# Altium integrated library Lattice CPLD ispMACH.IntLib: 663 symbols (part 25 of 48)
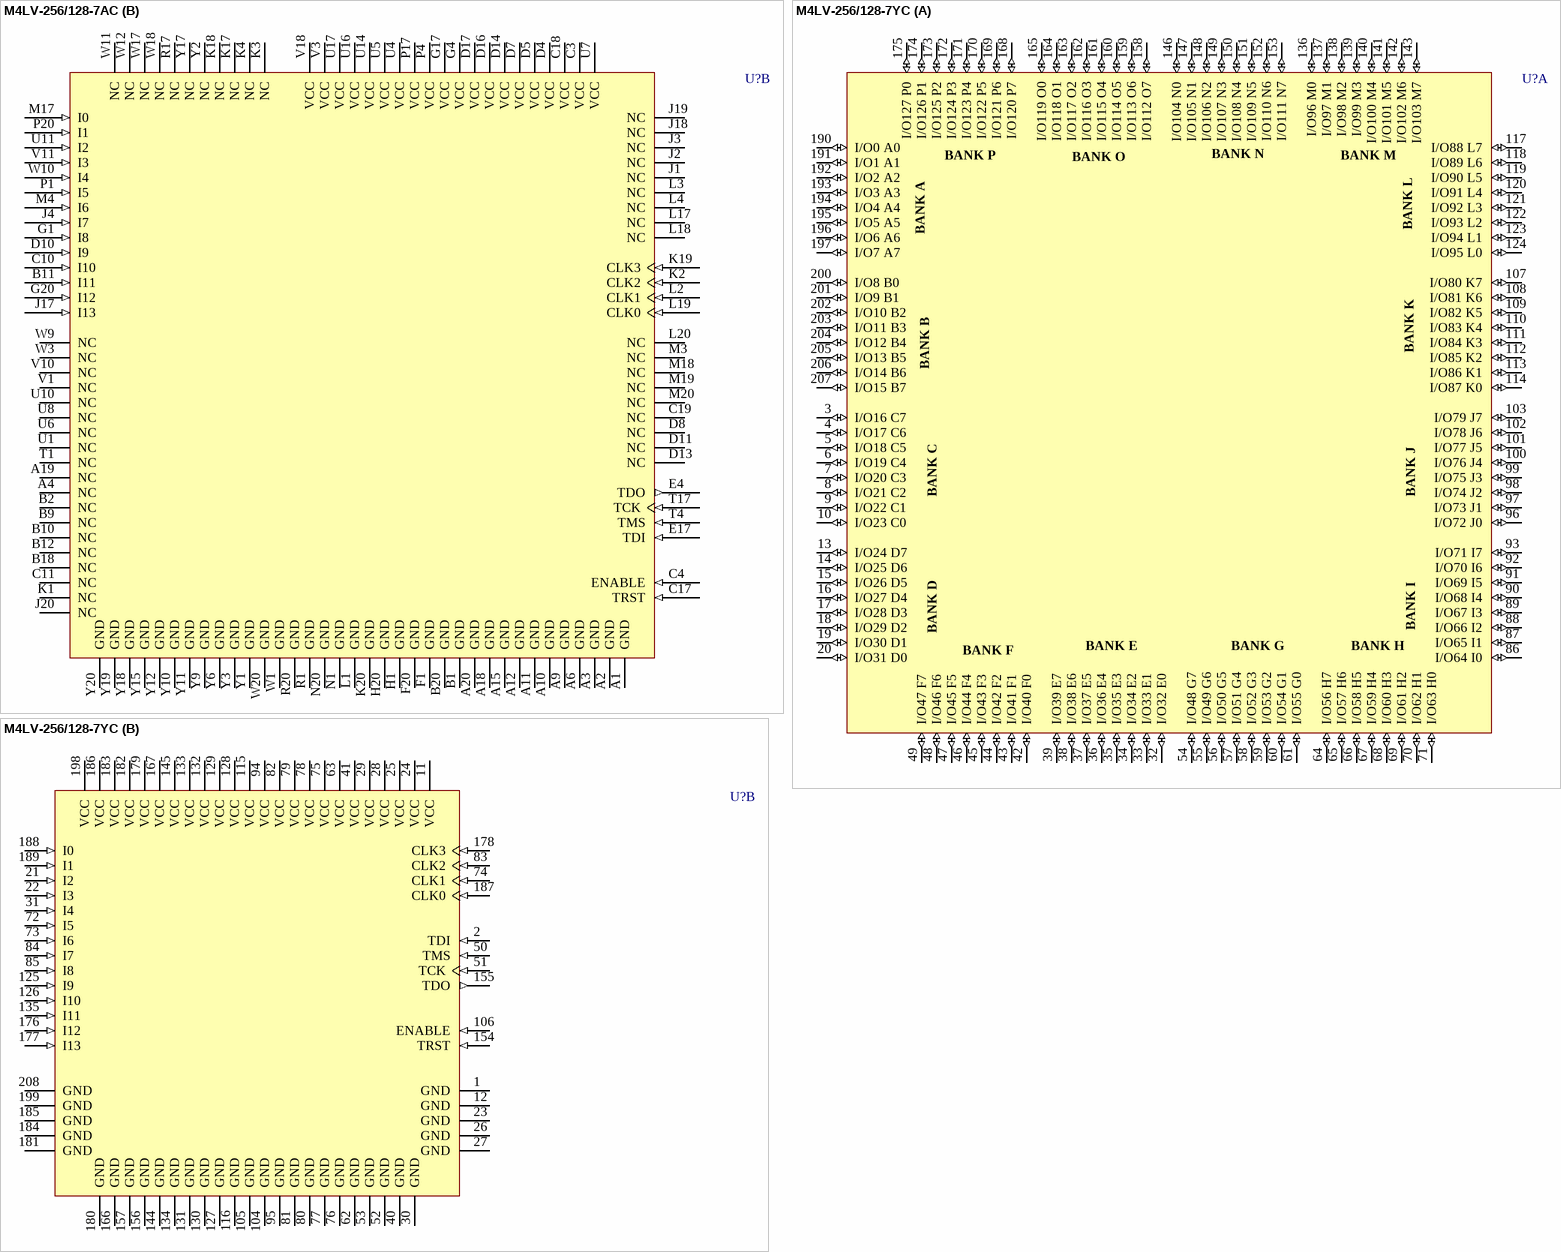
[diagram p330: symbols M4LV-256/128-7AC to M4LV-256/128-7YC]

## M4LV-256/128-7AC
designator U?
High-Performance EE CMOS In-System Programmable Logic; Published: 23-Sep-2002; LatestRevisionDate: 13-Apr-2006; LatestRevisionNote: IPC-7351 Footprint Added.; DatasheetVersion: Mar-2000; PackageVersion: pkg_32, Aug-2005; PackageReference: SBGA256; Publisher: Altium Limited; PackageDescription: 256-Ball Super Ball Grid Array (SBGA256); ComponentLink1Description: Manufacturer Link; ComponentLink1URL: http://www.latticesemi.com/products/mature/index.cfm; ComponentLink2Description: Datasheet; ComponentLink2URL: http://www.latticesemi.com/lit/docs/datasheets/cpld/mach4.pdf
footprint SBGA256 (BGA, 256-Leads, Body 27x27mm, Pitch 1.27mm)
3D model M4LV-SBGA256 (256-Ball Super Ball Grid Array (SBGA256))
part A pins: A5 I/O87 K0 (io), A7 I/O91 L4 (io), A8 I/O95 L0 (io), A13 I/O96 M0 (io), A14 I/O100 M4 (io), A16 I/O105 N1 (io), A17 I/O108 N4 (io), B3 I/O82 K5 (io), B4 I/O83 K4 (io), B5 I/O85 K2 (io), B6 I/O88 L7 (io), B7 I/O89 L6 (io), B8 I/O93 L2 (io), B13 I/O98 M2 (io), B14 I/O102 M6 (io), B15 I/O103 M7 (io), B16 I/O106 N2 (io), B17 I/O109 N5 (io), B19 I/O113 O6 (io), C1 I/O74 J2 (io), C2 I/O78 J6 (io), C5 I/O80 K7 (io), C6 I/O84 K3 (io), C7 I/O86 K1 (io), C8 I/O90 L5 (io), C9 I/O94 L1 (io), C12 I/O97 M1 (io), C13 I/O101 M5 (io), C14 I/O104 N0 (io), C15 I/O107 N3 (io), C16 I/O111 N7 (io), C20 I/O116 O3 (io), D1 I/O71 I7 (io), D2 I/O75 J3 (io), D3 I/O79 J7 (io), D6 I/O81 K6 (io), D9 I/O92 L3 (io), D12 I/O99 M3 (io), D15 I/O110 N6 (io), D18 I/O112 O7 (io), D19 I/O117 O2 (io), D20 I/O120 P7 (io), E1 I/O68 I4 (io), E2 I/O72 J0 (io), E3 I/O77 J5 (io), E18 I/O114 O5 (io), E19 I/O119 O0 (io), E20 I/O123 P4 (io), F2 I/O69 I5 (io), F3 I/O73 J1 (io), F4 I/O76 J4 (io), F17 I/O115 O4 (io), F18 I/O118 O1 (io), F19 I/O122 P5 (io), G2 I/O65 I1 (io), G3 I/O70 I6 (io), G18 I/O121 P6 (io), G19 I/O125 P2 (io), H2 I/O64 I0 (io), H3 I/O66 I2 (io), H4 I/O67 I3 (io), H17 I/O124 P3 (io), H18 I/O126 P1 (io), H19 I/O127 P0 (io), M1 I/O62 H1 (io), M2 I/O63 H0 (io), N2 I/O59 H4 (io), N3 I/O61 H2 (io), N4 I/O60 H3 (io), N17 I/O3 A3 (io), N18 I/O2 A2 (io), N19 I/O0 A0 (io), P2 I/O58 H5 (io), P3 I/O57 H6 (io), P18 I/O6 A6 (io), P19 I/O1 A1 (io), R2 I/O56 H7 (io), R3 I/O54 G1 (io), R4 I/O51 G4 (io), R18 I/O9 B1 (io), R19 I/O5 A5 (io), T2 I/O55 G0 (io), T3 I/O50 G5 (io), T18 I/O12 B4 (io), T19 I/O8 B0 (io), T20 I/O4 A4 (io), U2 I/O53 G2 (io), U3 I/O48 G7 (io), U9 I/O35 E3 (io), U12 I/O29 D2 (io), U13 I/O24 D7 (io), U15 I/O18 C5 (io), U18 I/O15 B7 (io), U19 I/O11 B3 (io), U20 I/O7 A7 (io), V2 I/O52 G3 (io), V4 I/O47 F7 (io), V5 I/O46 F6 (io), V6 I/O43 F3 (io), V7 I/O41 F1 (io), V8 I/O37 E5 (io), V9 I/O33 E1 (io), V12 I/O31 D0 (io), V13 I/O27 D4 (io), V14 I/O23 C0 (io), V15 I/O21 C2 (io), V16 I/O17 C6 (io), V17 I/O16 C7 (io), V19 I/O13 B5 (io), V20 I/O10 B2 (io), W2 I/O49 G6 (io), W4 I/O45 F5 (io), W5 I/O42 F2 (io), W6 I/O39 E7 (io), W7 I/O38 E6 (io), W8 I/O34 E2 (io), W13 I/O28 D3 (io), W14 I/O25 D6 (io), W15 I/O22 C1 (io), W16 I/O19 C4 (io), W19 I/O14 B6 (io), Y4 I/O44 F4 (io), Y5 I/O40 F0 (io), Y7 I/O36 E4 (io), Y8 I/O32 E0 (io), Y13 I/O30 D1 (io), Y14 I/O26 D5 (io), Y16 I/O20 C3 (io)
part B pins: A1 GND (power), A2 GND (power), A3 GND (power), A4 NC, A6 GND (power), A9 GND (power), A10 GND (power), A11 GND (power), A12 GND (power), A15 GND (power), A18 GND (power), A19 NC, A20 GND (power), B1 GND (power), B2 NC, B9 NC, B10 NC, B11 I11 (in), B12 NC, B18 NC, B20 GND (power), C3 VCC (power), C4 ENABLE (in), C10 I10 (in), C11 NC, C17 TRST (in), C18 VCC (power), C19 NC, D4 VCC (power), D5 VCC (power), D7 VCC (power), D8 NC, D10 I9 (in), D11 NC, D13 NC, D14 VCC (power), D16 VCC (power), D17 VCC (power), E4 TDO (out), E17 TDI (in), F1 GND (power), F20 GND (power), G1 I8 (in), G4 VCC (power), G17 VCC (power), G20 I12 (in), H1 GND (power), H20 GND (power), J1 NC, J2 NC, J3 NC, J4 I7 (in), J17 I13 (in), J18 NC, J19 NC, J20 NC, K1 NC, K2 CLK2 (in), K3 NC, K4 NC, K17 NC, K18 NC, K19 CLK3 (in), K20 GND (power), L1 GND (power), L2 CLK1 (in), L3 NC, L4 NC, L17 NC, L18 NC, L19 CLK0 (in), L20 NC, M3 NC, M4 I6 (in), M17 I0 (in), M18 NC, M19 NC, M20 NC, N1 GND (power), N20 GND (power), P1 I5 (in), P4 VCC (power), P17 VCC (power), P20 I1 (in), R1 GND (power), R17 NC, R20 GND (power), T1 NC, T4 TMS (in), T17 TCK (in), U1 NC, U4 VCC (power), U5 VCC (power), U6 NC, U7 VCC (power), U8 NC, U10 NC, U11 I2 (in), U14 VCC (power), U16 VCC (power), U17 VCC (power), V1 NC, V3 VCC (power), V10 NC, V11 I3 (in), V18 VCC (power), W1 GND (power), W3 NC, W9 NC, W10 I4 (in), W11 NC, W12 NC, W17 NC, W18 NC, W20 GND (power), Y1 GND (power), Y2 NC, Y3 GND (power), Y6 GND (power), Y9 GND (power), Y10 GND (power), Y11 GND (power), Y12 GND (power), Y15 GND (power), Y17 NC, Y18 GND (power), Y19 GND (power), Y20 GND (power)
part A text: Block P; Block O; Block N; Block M; Block A; Block L; Block B; Block K; Block C; Block J; Block D; Block I; Block E; Block F; Block G; Block H

## M4LV-256/128-7YC
designator U?
High-Performance EE CMOS In-System Programmable Logic; Published: 23-Sep-2002; LatestRevisionDate: 13-Apr-2006; LatestRevisionNote: IPC-7351 Footprint Added.; DatasheetVersion: Mar-2000; PackageVersion: pkg_32, Aug-2005; PackageReference: PQFP208; Publisher: Altium Limited; PackageDescription: 208-Pin Plastic Quad Flat Pack (PQFP208); Code_JEDEC: MO-143-FAI; ComponentLink1Description: Manufacturer Link; ComponentLink1URL: http://www.latticesemi.com/products/mature/index.cfm; ComponentLink2Description: Datasheet; ComponentLink2URL: http://www.latticesemi.com/lit/docs/datasheets/cpld/mach4.pdf
footprint PQFP208_N (Shrink QFP, 208-Leads, Body 28x28mm, Pitch 0.5mm, IPC Medium Density)
footprint PQFP208_L (Shrink QFP, 208-Leads, Body 28x28mm, Pitch 0.5mm, IPC High Density)
footprint PQFP208_M (Shrink QFP, 208-Leads, Body 28x28mm, Pitch 0.5mm, IPC Low Density)
3D model M4LV-PQFP208 (208-Pin Plastic Quad Flat Pack (PQFP208))
part A pins: 3 I/O16 C7 (io), 4 I/O17 C6 (io), 5 I/O18 C5 (io), 6 I/O19 C4 (io), 7 I/O20 C3 (io), 8 I/O21 C2 (io), 9 I/O22 C1 (io), 10 I/O23 C0 (io), 13 I/O24 D7 (io), 14 I/O25 D6 (io), 15 I/O26 D5 (io), 16 I/O27 D4 (io), 17 I/O28 D3 (io), 18 I/O29 D2 (io), 19 I/O30 D1 (io), 20 I/O31 D0 (io), 32 I/O32 E0 (io), 33 I/O33 E1 (io), 34 I/O34 E2 (io), 35 I/O35 E3 (io), 36 I/O36 E4 (io), 37 I/O37 E5 (io), 38 I/O38 E6 (io), 39 I/O39 E7 (io), 42 I/O40 F0 (io), 43 I/O41 F1 (io), 44 I/O42 F2 (io), 45 I/O43 F3 (io), 46 I/O44 F4 (io), 47 I/O45 F5 (io), 48 I/O46 F6 (io), 49 I/O47 F7 (io), 54 I/O48 G7 (io), 55 I/O49 G6 (io), 56 I/O50 G5 (io), 57 I/O51 G4 (io), 58 I/O52 G3 (io), 59 I/O53 G2 (io), 60 I/O54 G1 (io), 61 I/O55 G0 (io), 64 I/O56 H7 (io), 65 I/O57 H6 (io), 66 I/O58 H5 (io), 67 I/O59 H4 (io), 68 I/O60 H3 (io), 69 I/O61 H2 (io), 70 I/O62 H1 (io), 71 I/O63 H0 (io), 86 I/O64 I0 (io), 87 I/O65 I1 (io), 88 I/O66 I2 (io), 89 I/O67 I3 (io), 90 I/O68 I4 (io), 91 I/O69 I5 (io), 92 I/O70 I6 (io), 93 I/O71 I7 (io), 96 I/O72 J0 (io), 97 I/O73 J1 (io), 98 I/O74 J2 (io), 99 I/O75 J3 (io), 100 I/O76 J4 (io), 101 I/O77 J5 (io), 102 I/O78 J6 (io), 103 I/O79 J7 (io), 107 I/O80 K7 (io), 108 I/O81 K6 (io), 109 I/O82 K5 (io), 110 I/O83 K4 (io), 111 I/O84 K3 (io), 112 I/O85 K2 (io), 113 I/O86 K1 (io), 114 I/O87 K0 (io), 117 I/O88 L7 (io), 118 I/O89 L6 (io), 119 I/O90 L5 (io), 120 I/O91 L4 (io), 121 I/O92 L3 (io), 122 I/O93 L2 (io), 123 I/O94 L1 (io), 124 I/O95 L0 (io), 136 I/O96 M0 (io), 137 I/O97 M1 (io), 138 I/O98 M2 (io), 139 I/O99 M3 (io), 140 I/O100 M4 (io), 141 I/O101 M5 (io), 142 I/O102 M6 (io), 143 I/O103 M7 (io), 146 I/O104 N0 (io), 147 I/O105 N1 (io), 148 I/O106 N2 (io), 149 I/O107 N3 (io), 150 I/O108 N4 (io), 151 I/O109 N5 (io), 152 I/O110 N6 (io), 153 I/O111 N7 (io), 158 I/O112 O7 (io), 159 I/O113 O6 (io), 160 I/O114 O5 (io), 161 I/O115 O4 (io), 162 I/O116 O3 (io), 163 I/O117 O2 (io), 164 I/O118 O1 (io), 165 I/O119 O0 (io), 168 I/O120 P7 (io), 169 I/O121 P6 (io), 170 I/O122 P5 (io), 171 I/O123 P4 (io), 172 I/O124 P3 (io), 173 I/O125 P2 (io), 174 I/O126 P1 (io), 175 I/O127 P0 (io), 190 I/O0 A0 (io), 191 I/O1 A1 (io), 192 I/O2 A2 (io), 193 I/O3 A3 (io), 194 I/O4 A4 (io), 195 I/O5 A5 (io), 196 I/O6 A6 (io), 197 I/O7 A7 (io), 200 I/O8 B0 (io), 201 I/O9 B1 (io), 202 I/O10 B2 (io), 203 I/O11 B3 (io), 204 I/O12 B4 (io), 205 I/O13 B5 (io), 206 I/O14 B6 (io), 207 I/O15 B7 (io)
part B pins: 1 GND (power), 2 TDI (in), 11 VCC (power), 12 GND (power), 21 I2 (in), 22 I3 (in), 23 GND (power), 24 VCC (power), 25 VCC (power), 26 GND (power), 27 GND (power), 28 VCC (power), 29 VCC (power), 30 GND (power), 31 I4 (in), 40 GND (power), 41 VCC (power), 50 TMS (in), 51 TCK (in), 52 GND (power), 53 GND (power), 62 GND (power), 63 VCC (power), 72 I5 (in), 73 I6 (in), 74 CLK1 (in), 75 VCC (power), 76 GND (power), 77 GND (power), 78 VCC (power), 79 VCC (power), 80 GND (power), 81 GND (power), 82 VCC (power), 83 CLK2 (in), 84 I7 (in), 85 I8 (in), 94 VCC (power), 95 GND (power), 104 GND (power), 105 GND (power), 106 ENABLE (in), 115 VCC (power), 116 GND (power), 125 I9 (in), 126 I10 (in), 127 GND (power), 128 VCC (power), 129 VCC (power), 130 GND (power), 131 GND (power), 132 VCC (power), 133 VCC (power), 134 GND (power), 135 I11 (in), 144 GND (power), 145 VCC (power), 154 TRST (in), 155 TDO (out), 156 GND (power), 157 GND (power), 166 GND (power), 167 VCC (power), 176 I12 (in), 177 I13 (in), 178 CLK3 (in), 179 VCC (power), 180 GND (power), 181 GND (power), 182 VCC (power), 183 VCC (power), 184 GND (power), 185 GND (power), 186 VCC (power), 187 CLK0 (in), 188 I0 (in), 189 I1 (in), 198 VCC (power), 199 GND (power), 208 GND (power)
part A text: BANK P; BANK O; BANK N; BANK M; BANK L; BANK A; BANK K; BANK B; BANK C; BANK J; BANK I; BANK D; BANK F; BANK E; BANK G; BANK H

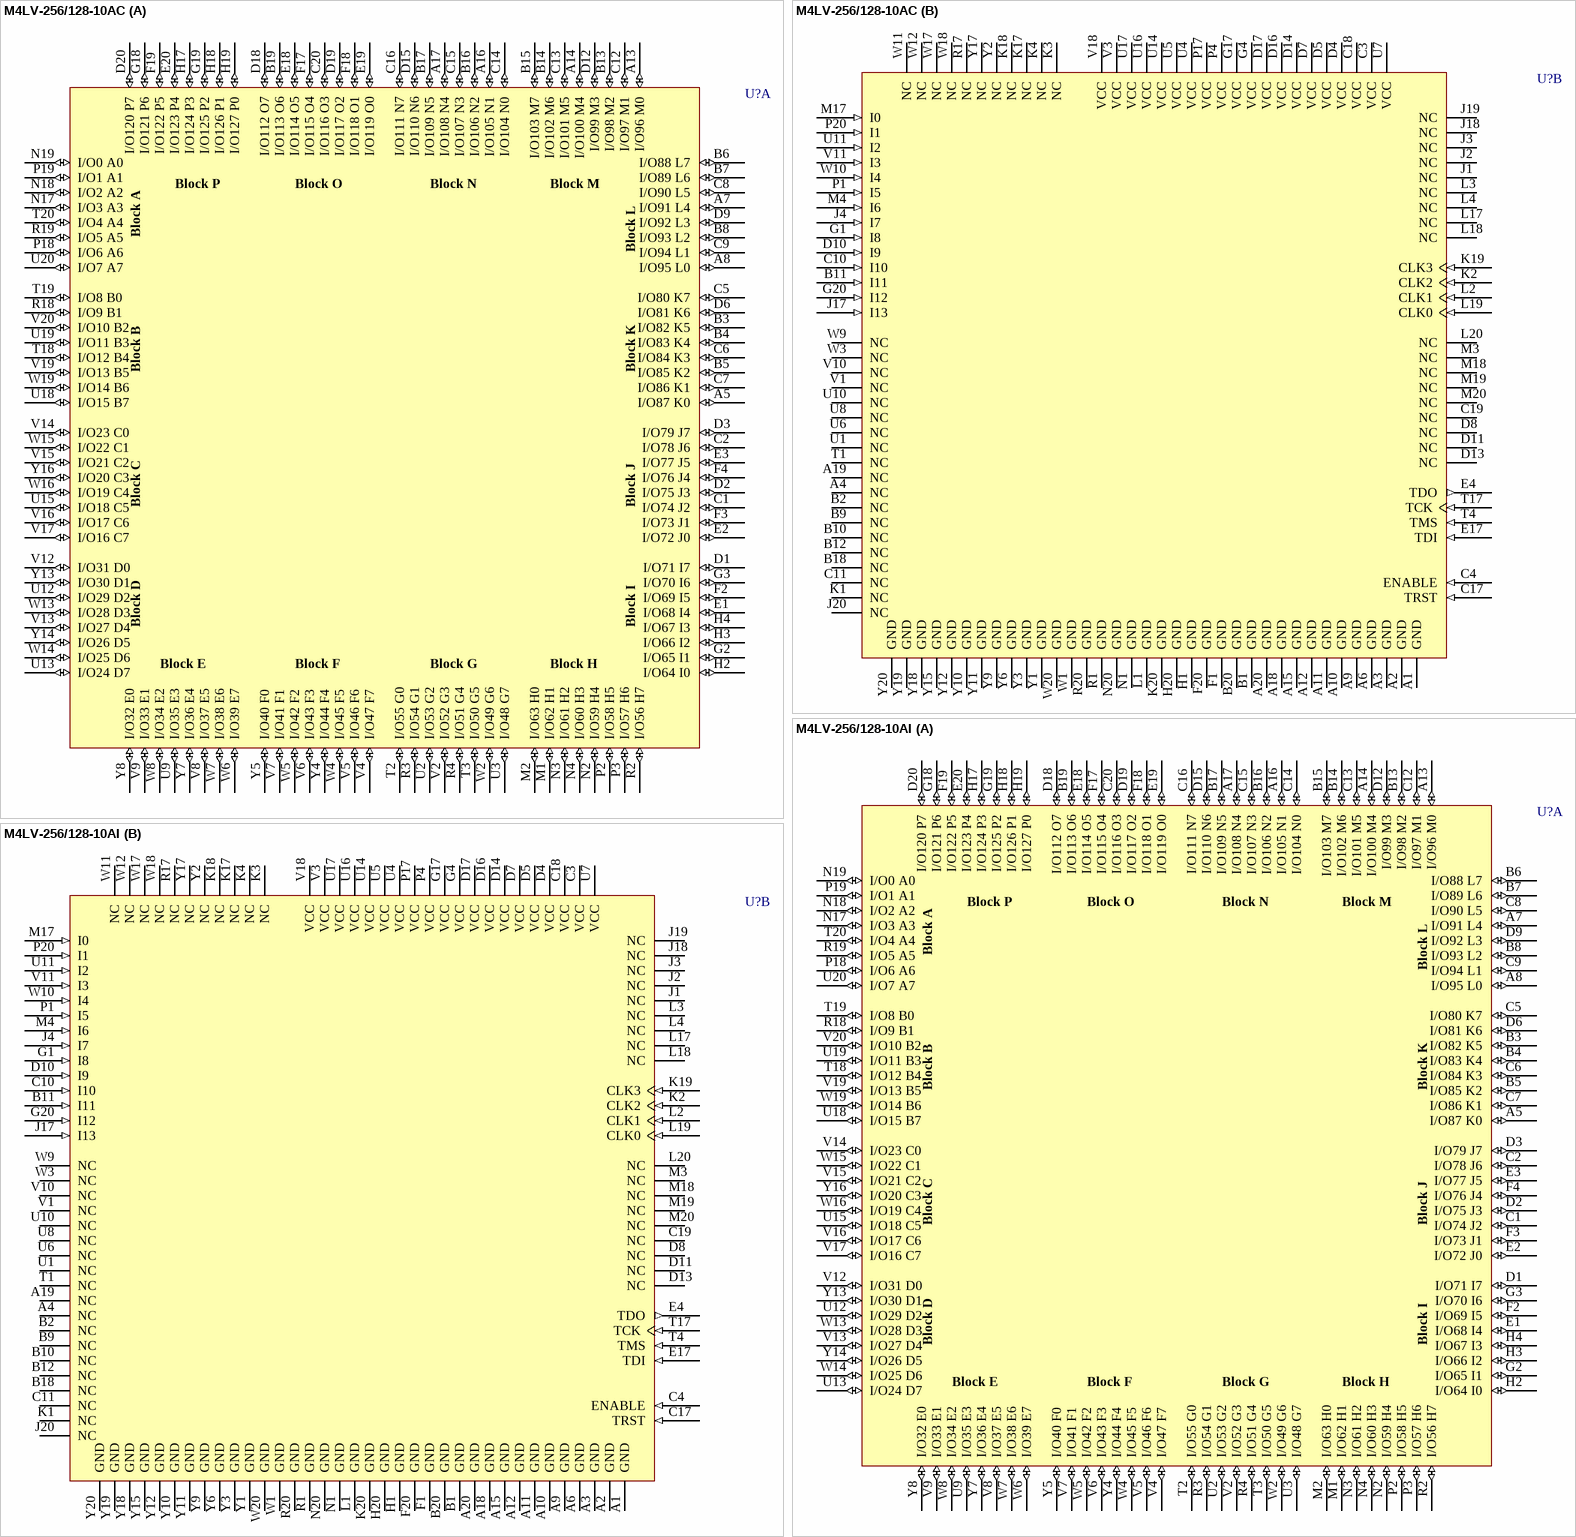
[diagram p148: symbols M4LV-256/128-10AC to M4LV-256/128-10AI]

## M4LV-256/128-10AC
designator U?
High-Performance EE CMOS In-System Programmable Logic; Published: 23-Sep-2002; LatestRevisionDate: 13-Apr-2006; LatestRevisionNote: IPC-7351 Footprint Added.; DatasheetVersion: Mar-2000; PackageVersion: pkg_32, Aug-2005; PackageReference: SBGA256; Publisher: Altium Limited; PackageDescription: 256-Ball Super Ball Grid Array (SBGA256); ComponentLink1Description: Manufacturer Link; ComponentLink1URL: http://www.latticesemi.com/products/mature/index.cfm; ComponentLink2Description: Datasheet; ComponentLink2URL: http://www.latticesemi.com/lit/docs/datasheets/cpld/mach4.pdf
footprint SBGA256 (BGA, 256-Leads, Body 27x27mm, Pitch 1.27mm)
3D model M4LV-SBGA256 (256-Ball Super Ball Grid Array (SBGA256))
part A pins: A5 I/O87 K0 (io), A7 I/O91 L4 (io), A8 I/O95 L0 (io), A13 I/O96 M0 (io), A14 I/O100 M4 (io), A16 I/O105 N1 (io), A17 I/O108 N4 (io), B3 I/O82 K5 (io), B4 I/O83 K4 (io), B5 I/O85 K2 (io), B6 I/O88 L7 (io), B7 I/O89 L6 (io), B8 I/O93 L2 (io), B13 I/O98 M2 (io), B14 I/O102 M6 (io), B15 I/O103 M7 (io), B16 I/O106 N2 (io), B17 I/O109 N5 (io), B19 I/O113 O6 (io), C1 I/O74 J2 (io), C2 I/O78 J6 (io), C5 I/O80 K7 (io), C6 I/O84 K3 (io), C7 I/O86 K1 (io), C8 I/O90 L5 (io), C9 I/O94 L1 (io), C12 I/O97 M1 (io), C13 I/O101 M5 (io), C14 I/O104 N0 (io), C15 I/O107 N3 (io), C16 I/O111 N7 (io), C20 I/O116 O3 (io), D1 I/O71 I7 (io), D2 I/O75 J3 (io), D3 I/O79 J7 (io), D6 I/O81 K6 (io), D9 I/O92 L3 (io), D12 I/O99 M3 (io), D15 I/O110 N6 (io), D18 I/O112 O7 (io), D19 I/O117 O2 (io), D20 I/O120 P7 (io), E1 I/O68 I4 (io), E2 I/O72 J0 (io), E3 I/O77 J5 (io), E18 I/O114 O5 (io), E19 I/O119 O0 (io), E20 I/O123 P4 (io), F2 I/O69 I5 (io), F3 I/O73 J1 (io), F4 I/O76 J4 (io), F17 I/O115 O4 (io), F18 I/O118 O1 (io), F19 I/O122 P5 (io), G2 I/O65 I1 (io), G3 I/O70 I6 (io), G18 I/O121 P6 (io), G19 I/O125 P2 (io), H2 I/O64 I0 (io), H3 I/O66 I2 (io), H4 I/O67 I3 (io), H17 I/O124 P3 (io), H18 I/O126 P1 (io), H19 I/O127 P0 (io), M1 I/O62 H1 (io), M2 I/O63 H0 (io), N2 I/O59 H4 (io), N3 I/O61 H2 (io), N4 I/O60 H3 (io), N17 I/O3 A3 (io), N18 I/O2 A2 (io), N19 I/O0 A0 (io), P2 I/O58 H5 (io), P3 I/O57 H6 (io), P18 I/O6 A6 (io), P19 I/O1 A1 (io), R2 I/O56 H7 (io), R3 I/O54 G1 (io), R4 I/O51 G4 (io), R18 I/O9 B1 (io), R19 I/O5 A5 (io), T2 I/O55 G0 (io), T3 I/O50 G5 (io), T18 I/O12 B4 (io), T19 I/O8 B0 (io), T20 I/O4 A4 (io), U2 I/O53 G2 (io), U3 I/O48 G7 (io), U9 I/O35 E3 (io), U12 I/O29 D2 (io), U13 I/O24 D7 (io), U15 I/O18 C5 (io), U18 I/O15 B7 (io), U19 I/O11 B3 (io), U20 I/O7 A7 (io), V2 I/O52 G3 (io), V4 I/O47 F7 (io), V5 I/O46 F6 (io), V6 I/O43 F3 (io), V7 I/O41 F1 (io), V8 I/O37 E5 (io), V9 I/O33 E1 (io), V12 I/O31 D0 (io), V13 I/O27 D4 (io), V14 I/O23 C0 (io), V15 I/O21 C2 (io), V16 I/O17 C6 (io), V17 I/O16 C7 (io), V19 I/O13 B5 (io), V20 I/O10 B2 (io), W2 I/O49 G6 (io), W4 I/O45 F5 (io), W5 I/O42 F2 (io), W6 I/O39 E7 (io), W7 I/O38 E6 (io), W8 I/O34 E2 (io), W13 I/O28 D3 (io), W14 I/O25 D6 (io), W15 I/O22 C1 (io), W16 I/O19 C4 (io), W19 I/O14 B6 (io), Y4 I/O44 F4 (io), Y5 I/O40 F0 (io), Y7 I/O36 E4 (io), Y8 I/O32 E0 (io), Y13 I/O30 D1 (io), Y14 I/O26 D5 (io), Y16 I/O20 C3 (io)
part B pins: A1 GND (power), A2 GND (power), A3 GND (power), A4 NC, A6 GND (power), A9 GND (power), A10 GND (power), A11 GND (power), A12 GND (power), A15 GND (power), A18 GND (power), A19 NC, A20 GND (power), B1 GND (power), B2 NC, B9 NC, B10 NC, B11 I11 (in), B12 NC, B18 NC, B20 GND (power), C3 VCC (power), C4 ENABLE (in), C10 I10 (in), C11 NC, C17 TRST (in), C18 VCC (power), C19 NC, D4 VCC (power), D5 VCC (power), D7 VCC (power), D8 NC, D10 I9 (in), D11 NC, D13 NC, D14 VCC (power), D16 VCC (power), D17 VCC (power), E4 TDO (out), E17 TDI (in), F1 GND (power), F20 GND (power), G1 I8 (in), G4 VCC (power), G17 VCC (power), G20 I12 (in), H1 GND (power), H20 GND (power), J1 NC, J2 NC, J3 NC, J4 I7 (in), J17 I13 (in), J18 NC, J19 NC, J20 NC, K1 NC, K2 CLK2 (in), K3 NC, K4 NC, K17 NC, K18 NC, K19 CLK3 (in), K20 GND (power), L1 GND (power), L2 CLK1 (in), L3 NC, L4 NC, L17 NC, L18 NC, L19 CLK0 (in), L20 NC, M3 NC, M4 I6 (in), M17 I0 (in), M18 NC, M19 NC, M20 NC, N1 GND (power), N20 GND (power), P1 I5 (in), P4 VCC (power), P17 VCC (power), P20 I1 (in), R1 GND (power), R17 NC, R20 GND (power), T1 NC, T4 TMS (in), T17 TCK (in), U1 NC, U4 VCC (power), U5 VCC (power), U6 NC, U7 VCC (power), U8 NC, U10 NC, U11 I2 (in), U14 VCC (power), U16 VCC (power), U17 VCC (power), V1 NC, V3 VCC (power), V10 NC, V11 I3 (in), V18 VCC (power), W1 GND (power), W3 NC, W9 NC, W10 I4 (in), W11 NC, W12 NC, W17 NC, W18 NC, W20 GND (power), Y1 GND (power), Y2 NC, Y3 GND (power), Y6 GND (power), Y9 GND (power), Y10 GND (power), Y11 GND (power), Y12 GND (power), Y15 GND (power), Y17 NC, Y18 GND (power), Y19 GND (power), Y20 GND (power)
part A text: Block P; Block O; Block N; Block M; Block A; Block L; Block B; Block K; Block C; Block J; Block D; Block I; Block E; Block F; Block G; Block H

## M4LV-256/128-10AI
designator U?
High-Performance EE CMOS In-System Programmable Logic; Published: 23-Sep-2002; LatestRevisionDate: 13-Apr-2006; LatestRevisionNote: IPC-7351 Footprint Added.; DatasheetVersion: Mar-2000; PackageVersion: pkg_32, Aug-2005; PackageReference: SBGA256; Publisher: Altium Limited; PackageDescription: 256-Ball Super Ball Grid Array (SBGA256); ComponentLink1Description: Manufacturer Link; ComponentLink1URL: http://www.latticesemi.com/products/mature/index.cfm; ComponentLink2Description: Datasheet; ComponentLink2URL: http://www.latticesemi.com/lit/docs/datasheets/cpld/mach4.pdf
footprint SBGA256 (BGA, 256-Leads, Body 27x27mm, Pitch 1.27mm)
3D model M4LV-SBGA256 (256-Ball Super Ball Grid Array (SBGA256))
part A pins: A5 I/O87 K0 (io), A7 I/O91 L4 (io), A8 I/O95 L0 (io), A13 I/O96 M0 (io), A14 I/O100 M4 (io), A16 I/O105 N1 (io), A17 I/O108 N4 (io), B3 I/O82 K5 (io), B4 I/O83 K4 (io), B5 I/O85 K2 (io), B6 I/O88 L7 (io), B7 I/O89 L6 (io), B8 I/O93 L2 (io), B13 I/O98 M2 (io), B14 I/O102 M6 (io), B15 I/O103 M7 (io), B16 I/O106 N2 (io), B17 I/O109 N5 (io), B19 I/O113 O6 (io), C1 I/O74 J2 (io), C2 I/O78 J6 (io), C5 I/O80 K7 (io), C6 I/O84 K3 (io), C7 I/O86 K1 (io), C8 I/O90 L5 (io), C9 I/O94 L1 (io), C12 I/O97 M1 (io), C13 I/O101 M5 (io), C14 I/O104 N0 (io), C15 I/O107 N3 (io), C16 I/O111 N7 (io), C20 I/O116 O3 (io), D1 I/O71 I7 (io), D2 I/O75 J3 (io), D3 I/O79 J7 (io), D6 I/O81 K6 (io), D9 I/O92 L3 (io), D12 I/O99 M3 (io), D15 I/O110 N6 (io), D18 I/O112 O7 (io), D19 I/O117 O2 (io), D20 I/O120 P7 (io), E1 I/O68 I4 (io), E2 I/O72 J0 (io), E3 I/O77 J5 (io), E18 I/O114 O5 (io), E19 I/O119 O0 (io), E20 I/O123 P4 (io), F2 I/O69 I5 (io), F3 I/O73 J1 (io), F4 I/O76 J4 (io), F17 I/O115 O4 (io), F18 I/O118 O1 (io), F19 I/O122 P5 (io), G2 I/O65 I1 (io), G3 I/O70 I6 (io), G18 I/O121 P6 (io), G19 I/O125 P2 (io), H2 I/O64 I0 (io), H3 I/O66 I2 (io), H4 I/O67 I3 (io), H17 I/O124 P3 (io), H18 I/O126 P1 (io), H19 I/O127 P0 (io), M1 I/O62 H1 (io), M2 I/O63 H0 (io), N2 I/O59 H4 (io), N3 I/O61 H2 (io), N4 I/O60 H3 (io), N17 I/O3 A3 (io), N18 I/O2 A2 (io), N19 I/O0 A0 (io), P2 I/O58 H5 (io), P3 I/O57 H6 (io), P18 I/O6 A6 (io), P19 I/O1 A1 (io), R2 I/O56 H7 (io), R3 I/O54 G1 (io), R4 I/O51 G4 (io), R18 I/O9 B1 (io), R19 I/O5 A5 (io), T2 I/O55 G0 (io), T3 I/O50 G5 (io), T18 I/O12 B4 (io), T19 I/O8 B0 (io), T20 I/O4 A4 (io), U2 I/O53 G2 (io), U3 I/O48 G7 (io), U9 I/O35 E3 (io), U12 I/O29 D2 (io), U13 I/O24 D7 (io), U15 I/O18 C5 (io), U18 I/O15 B7 (io), U19 I/O11 B3 (io), U20 I/O7 A7 (io), V2 I/O52 G3 (io), V4 I/O47 F7 (io), V5 I/O46 F6 (io), V6 I/O43 F3 (io), V7 I/O41 F1 (io), V8 I/O37 E5 (io), V9 I/O33 E1 (io), V12 I/O31 D0 (io), V13 I/O27 D4 (io), V14 I/O23 C0 (io), V15 I/O21 C2 (io), V16 I/O17 C6 (io), V17 I/O16 C7 (io), V19 I/O13 B5 (io), V20 I/O10 B2 (io), W2 I/O49 G6 (io), W4 I/O45 F5 (io), W5 I/O42 F2 (io), W6 I/O39 E7 (io), W7 I/O38 E6 (io), W8 I/O34 E2 (io), W13 I/O28 D3 (io), W14 I/O25 D6 (io), W15 I/O22 C1 (io), W16 I/O19 C4 (io), W19 I/O14 B6 (io), Y4 I/O44 F4 (io), Y5 I/O40 F0 (io), Y7 I/O36 E4 (io), Y8 I/O32 E0 (io), Y13 I/O30 D1 (io), Y14 I/O26 D5 (io), Y16 I/O20 C3 (io)
part B pins: A1 GND (power), A2 GND (power), A3 GND (power), A4 NC, A6 GND (power), A9 GND (power), A10 GND (power), A11 GND (power), A12 GND (power), A15 GND (power), A18 GND (power), A19 NC, A20 GND (power), B1 GND (power), B2 NC, B9 NC, B10 NC, B11 I11 (in), B12 NC, B18 NC, B20 GND (power), C3 VCC (power), C4 ENABLE (in), C10 I10 (in), C11 NC, C17 TRST (in), C18 VCC (power), C19 NC, D4 VCC (power), D5 VCC (power), D7 VCC (power), D8 NC, D10 I9 (in), D11 NC, D13 NC, D14 VCC (power), D16 VCC (power), D17 VCC (power), E4 TDO (out), E17 TDI (in), F1 GND (power), F20 GND (power), G1 I8 (in), G4 VCC (power), G17 VCC (power), G20 I12 (in), H1 GND (power), H20 GND (power), J1 NC, J2 NC, J3 NC, J4 I7 (in), J17 I13 (in), J18 NC, J19 NC, J20 NC, K1 NC, K2 CLK2 (in), K3 NC, K4 NC, K17 NC, K18 NC, K19 CLK3 (in), K20 GND (power), L1 GND (power), L2 CLK1 (in), L3 NC, L4 NC, L17 NC, L18 NC, L19 CLK0 (in), L20 NC, M3 NC, M4 I6 (in), M17 I0 (in), M18 NC, M19 NC, M20 NC, N1 GND (power), N20 GND (power), P1 I5 (in), P4 VCC (power), P17 VCC (power), P20 I1 (in), R1 GND (power), R17 NC, R20 GND (power), T1 NC, T4 TMS (in), T17 TCK (in), U1 NC, U4 VCC (power), U5 VCC (power), U6 NC, U7 VCC (power), U8 NC, U10 NC, U11 I2 (in), U14 VCC (power), U16 VCC (power), U17 VCC (power), V1 NC, V3 VCC (power), V10 NC, V11 I3 (in), V18 VCC (power), W1 GND (power), W3 NC, W9 NC, W10 I4 (in), W11 NC, W12 NC, W17 NC, W18 NC, W20 GND (power), Y1 GND (power), Y2 NC, Y3 GND (power), Y6 GND (power), Y9 GND (power), Y10 GND (power), Y11 GND (power), Y12 GND (power), Y15 GND (power), Y17 NC, Y18 GND (power), Y19 GND (power), Y20 GND (power)
part A text: Block P; Block O; Block N; Block M; Block A; Block L; Block B; Block K; Block C; Block J; Block D; Block I; Block E; Block F; Block G; Block H

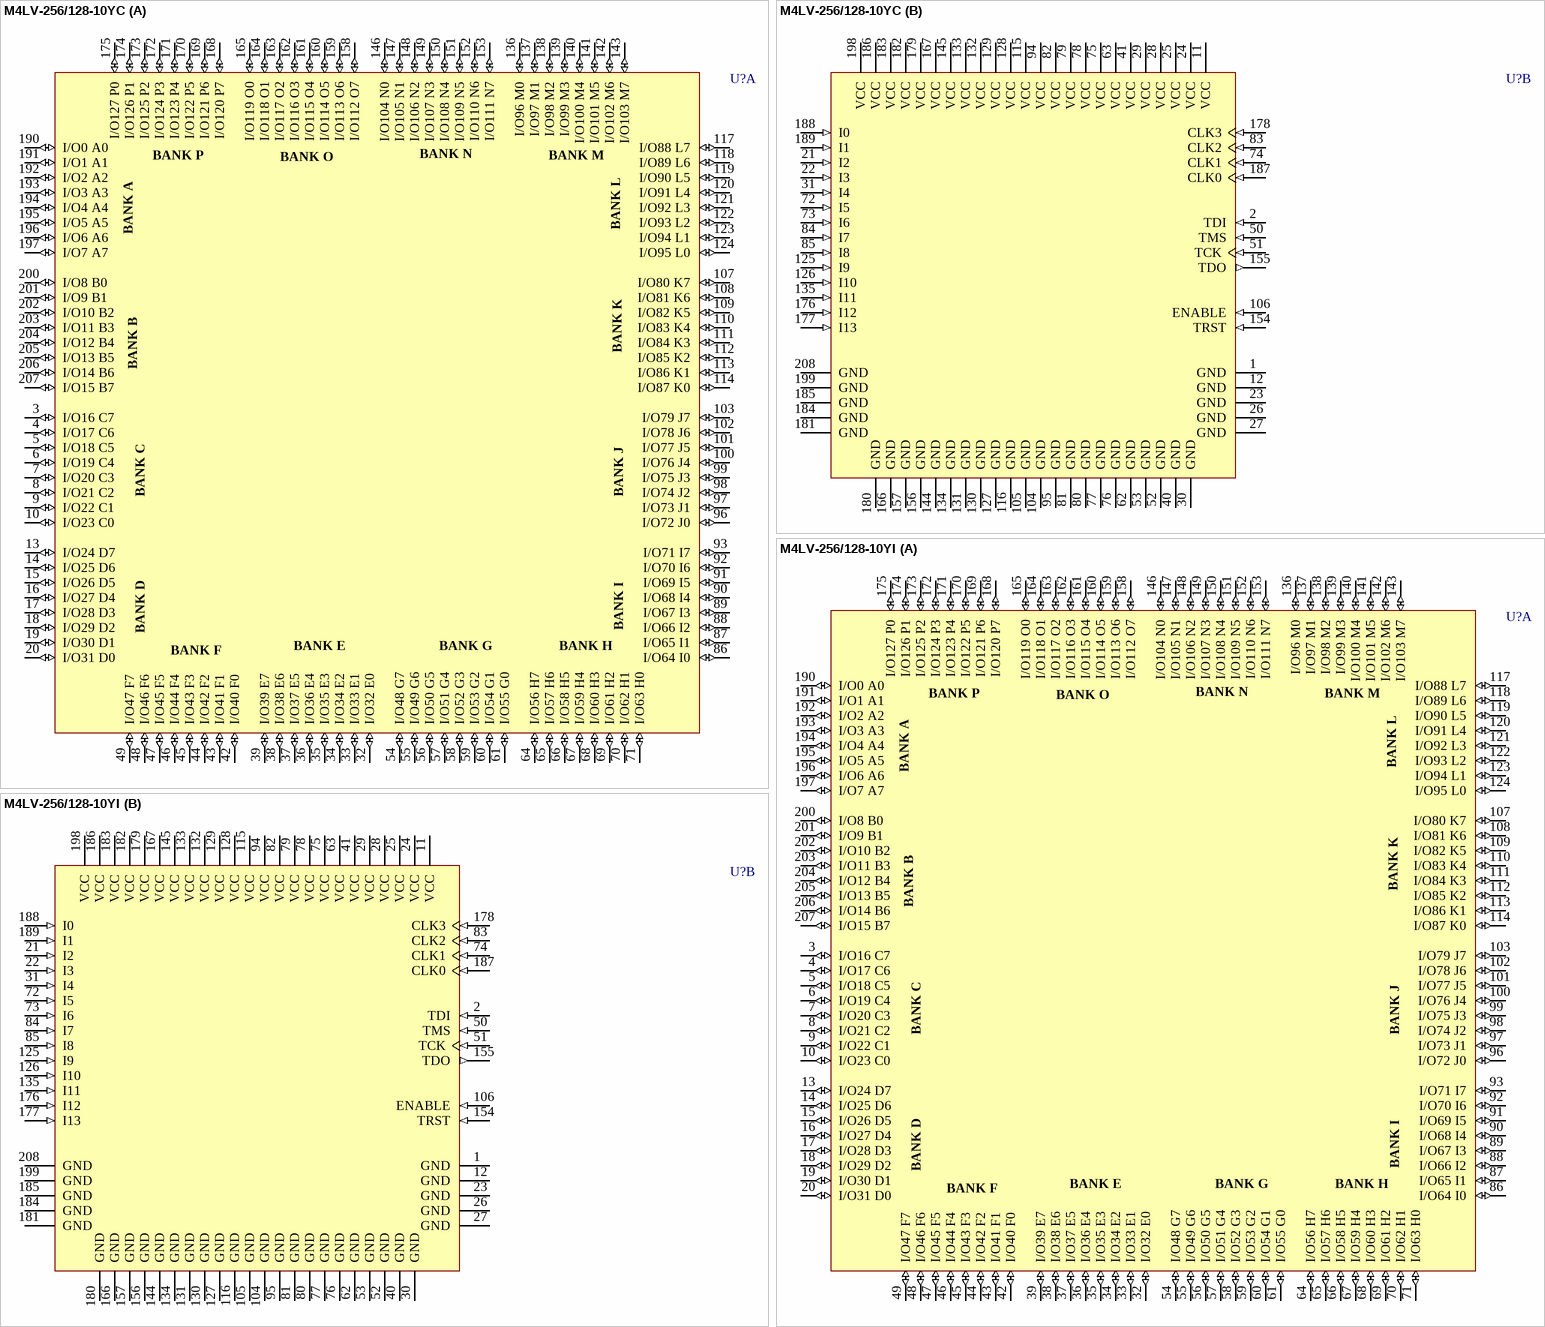
[diagram p149: symbols M4LV-256/128-10YC to M4LV-256/128-10YI]

## M4LV-256/128-10YC
designator U?
High-Performance EE CMOS In-System Programmable Logic; Published: 23-Sep-2002; LatestRevisionDate: 13-Apr-2006; LatestRevisionNote: IPC-7351 Footprint Added.; DatasheetVersion: Mar-2000; PackageVersion: pkg_32, Aug-2005; PackageReference: PQFP208; Publisher: Altium Limited; PackageDescription: 208-Pin Plastic Quad Flat Pack (PQFP208); Code_JEDEC: MO-143-FAI; ComponentLink1Description: Manufacturer Link; ComponentLink1URL: http://www.latticesemi.com/products/mature/index.cfm; ComponentLink2Description: Datasheet; ComponentLink2URL: http://www.latticesemi.com/lit/docs/datasheets/cpld/mach4.pdf
footprint PQFP208_N (Shrink QFP, 208-Leads, Body 28x28mm, Pitch 0.5mm, IPC Medium Density)
footprint PQFP208_L (Shrink QFP, 208-Leads, Body 28x28mm, Pitch 0.5mm, IPC High Density)
footprint PQFP208_M (Shrink QFP, 208-Leads, Body 28x28mm, Pitch 0.5mm, IPC Low Density)
3D model M4LV-PQFP208 (208-Pin Plastic Quad Flat Pack (PQFP208))
part A pins: 3 I/O16 C7 (io), 4 I/O17 C6 (io), 5 I/O18 C5 (io), 6 I/O19 C4 (io), 7 I/O20 C3 (io), 8 I/O21 C2 (io), 9 I/O22 C1 (io), 10 I/O23 C0 (io), 13 I/O24 D7 (io), 14 I/O25 D6 (io), 15 I/O26 D5 (io), 16 I/O27 D4 (io), 17 I/O28 D3 (io), 18 I/O29 D2 (io), 19 I/O30 D1 (io), 20 I/O31 D0 (io), 32 I/O32 E0 (io), 33 I/O33 E1 (io), 34 I/O34 E2 (io), 35 I/O35 E3 (io), 36 I/O36 E4 (io), 37 I/O37 E5 (io), 38 I/O38 E6 (io), 39 I/O39 E7 (io), 42 I/O40 F0 (io), 43 I/O41 F1 (io), 44 I/O42 F2 (io), 45 I/O43 F3 (io), 46 I/O44 F4 (io), 47 I/O45 F5 (io), 48 I/O46 F6 (io), 49 I/O47 F7 (io), 54 I/O48 G7 (io), 55 I/O49 G6 (io), 56 I/O50 G5 (io), 57 I/O51 G4 (io), 58 I/O52 G3 (io), 59 I/O53 G2 (io), 60 I/O54 G1 (io), 61 I/O55 G0 (io), 64 I/O56 H7 (io), 65 I/O57 H6 (io), 66 I/O58 H5 (io), 67 I/O59 H4 (io), 68 I/O60 H3 (io), 69 I/O61 H2 (io), 70 I/O62 H1 (io), 71 I/O63 H0 (io), 86 I/O64 I0 (io), 87 I/O65 I1 (io), 88 I/O66 I2 (io), 89 I/O67 I3 (io), 90 I/O68 I4 (io), 91 I/O69 I5 (io), 92 I/O70 I6 (io), 93 I/O71 I7 (io), 96 I/O72 J0 (io), 97 I/O73 J1 (io), 98 I/O74 J2 (io), 99 I/O75 J3 (io), 100 I/O76 J4 (io), 101 I/O77 J5 (io), 102 I/O78 J6 (io), 103 I/O79 J7 (io), 107 I/O80 K7 (io), 108 I/O81 K6 (io), 109 I/O82 K5 (io), 110 I/O83 K4 (io), 111 I/O84 K3 (io), 112 I/O85 K2 (io), 113 I/O86 K1 (io), 114 I/O87 K0 (io), 117 I/O88 L7 (io), 118 I/O89 L6 (io), 119 I/O90 L5 (io), 120 I/O91 L4 (io), 121 I/O92 L3 (io), 122 I/O93 L2 (io), 123 I/O94 L1 (io), 124 I/O95 L0 (io), 136 I/O96 M0 (io), 137 I/O97 M1 (io), 138 I/O98 M2 (io), 139 I/O99 M3 (io), 140 I/O100 M4 (io), 141 I/O101 M5 (io), 142 I/O102 M6 (io), 143 I/O103 M7 (io), 146 I/O104 N0 (io), 147 I/O105 N1 (io), 148 I/O106 N2 (io), 149 I/O107 N3 (io), 150 I/O108 N4 (io), 151 I/O109 N5 (io), 152 I/O110 N6 (io), 153 I/O111 N7 (io), 158 I/O112 O7 (io), 159 I/O113 O6 (io), 160 I/O114 O5 (io), 161 I/O115 O4 (io), 162 I/O116 O3 (io), 163 I/O117 O2 (io), 164 I/O118 O1 (io), 165 I/O119 O0 (io), 168 I/O120 P7 (io), 169 I/O121 P6 (io), 170 I/O122 P5 (io), 171 I/O123 P4 (io), 172 I/O124 P3 (io), 173 I/O125 P2 (io), 174 I/O126 P1 (io), 175 I/O127 P0 (io), 190 I/O0 A0 (io), 191 I/O1 A1 (io), 192 I/O2 A2 (io), 193 I/O3 A3 (io), 194 I/O4 A4 (io), 195 I/O5 A5 (io), 196 I/O6 A6 (io), 197 I/O7 A7 (io), 200 I/O8 B0 (io), 201 I/O9 B1 (io), 202 I/O10 B2 (io), 203 I/O11 B3 (io), 204 I/O12 B4 (io), 205 I/O13 B5 (io), 206 I/O14 B6 (io), 207 I/O15 B7 (io)
part B pins: 1 GND (power), 2 TDI (in), 11 VCC (power), 12 GND (power), 21 I2 (in), 22 I3 (in), 23 GND (power), 24 VCC (power), 25 VCC (power), 26 GND (power), 27 GND (power), 28 VCC (power), 29 VCC (power), 30 GND (power), 31 I4 (in), 40 GND (power), 41 VCC (power), 50 TMS (in), 51 TCK (in), 52 GND (power), 53 GND (power), 62 GND (power), 63 VCC (power), 72 I5 (in), 73 I6 (in), 74 CLK1 (in), 75 VCC (power), 76 GND (power), 77 GND (power), 78 VCC (power), 79 VCC (power), 80 GND (power), 81 GND (power), 82 VCC (power), 83 CLK2 (in), 84 I7 (in), 85 I8 (in), 94 VCC (power), 95 GND (power), 104 GND (power), 105 GND (power), 106 ENABLE (in), 115 VCC (power), 116 GND (power), 125 I9 (in), 126 I10 (in), 127 GND (power), 128 VCC (power), 129 VCC (power), 130 GND (power), 131 GND (power), 132 VCC (power), 133 VCC (power), 134 GND (power), 135 I11 (in), 144 GND (power), 145 VCC (power), 154 TRST (in), 155 TDO (out), 156 GND (power), 157 GND (power), 166 GND (power), 167 VCC (power), 176 I12 (in), 177 I13 (in), 178 CLK3 (in), 179 VCC (power), 180 GND (power), 181 GND (power), 182 VCC (power), 183 VCC (power), 184 GND (power), 185 GND (power), 186 VCC (power), 187 CLK0 (in), 188 I0 (in), 189 I1 (in), 198 VCC (power), 199 GND (power), 208 GND (power)
part A text: BANK P; BANK O; BANK N; BANK M; BANK L; BANK A; BANK K; BANK B; BANK C; BANK J; BANK I; BANK D; BANK F; BANK E; BANK G; BANK H

## M4LV-256/128-10YI
designator U?
High-Performance EE CMOS In-System Programmable Logic; Published: 23-Sep-2002; LatestRevisionDate: 13-Apr-2006; LatestRevisionNote: IPC-7351 Footprint Added.; DatasheetVersion: Mar-2000; PackageVersion: pkg_32, Aug-2005; PackageReference: PQFP208; Publisher: Altium Limited; PackageDescription: 208-Pin Plastic Quad Flat Pack (PQFP208); Code_JEDEC: MO-143-FAI; ComponentLink1Description: Manufacturer Link; ComponentLink1URL: http://www.latticesemi.com/products/mature/index.cfm; ComponentLink2Description: Datasheet; ComponentLink2URL: http://www.latticesemi.com/lit/docs/datasheets/cpld/mach4.pdf
footprint PQFP208_N (Shrink QFP, 208-Leads, Body 28x28mm, Pitch 0.5mm, IPC Medium Density)
footprint PQFP208_L (Shrink QFP, 208-Leads, Body 28x28mm, Pitch 0.5mm, IPC High Density)
footprint PQFP208_M (Shrink QFP, 208-Leads, Body 28x28mm, Pitch 0.5mm, IPC Low Density)
3D model M4LV-PQFP208 (208-Pin Plastic Quad Flat Pack (PQFP208))
part A pins: 3 I/O16 C7 (io), 4 I/O17 C6 (io), 5 I/O18 C5 (io), 6 I/O19 C4 (io), 7 I/O20 C3 (io), 8 I/O21 C2 (io), 9 I/O22 C1 (io), 10 I/O23 C0 (io), 13 I/O24 D7 (io), 14 I/O25 D6 (io), 15 I/O26 D5 (io), 16 I/O27 D4 (io), 17 I/O28 D3 (io), 18 I/O29 D2 (io), 19 I/O30 D1 (io), 20 I/O31 D0 (io), 32 I/O32 E0 (io), 33 I/O33 E1 (io), 34 I/O34 E2 (io), 35 I/O35 E3 (io), 36 I/O36 E4 (io), 37 I/O37 E5 (io), 38 I/O38 E6 (io), 39 I/O39 E7 (io), 42 I/O40 F0 (io), 43 I/O41 F1 (io), 44 I/O42 F2 (io), 45 I/O43 F3 (io), 46 I/O44 F4 (io), 47 I/O45 F5 (io), 48 I/O46 F6 (io), 49 I/O47 F7 (io), 54 I/O48 G7 (io), 55 I/O49 G6 (io), 56 I/O50 G5 (io), 57 I/O51 G4 (io), 58 I/O52 G3 (io), 59 I/O53 G2 (io), 60 I/O54 G1 (io), 61 I/O55 G0 (io), 64 I/O56 H7 (io), 65 I/O57 H6 (io), 66 I/O58 H5 (io), 67 I/O59 H4 (io), 68 I/O60 H3 (io), 69 I/O61 H2 (io), 70 I/O62 H1 (io), 71 I/O63 H0 (io), 86 I/O64 I0 (io), 87 I/O65 I1 (io), 88 I/O66 I2 (io), 89 I/O67 I3 (io), 90 I/O68 I4 (io), 91 I/O69 I5 (io), 92 I/O70 I6 (io), 93 I/O71 I7 (io), 96 I/O72 J0 (io), 97 I/O73 J1 (io), 98 I/O74 J2 (io), 99 I/O75 J3 (io), 100 I/O76 J4 (io), 101 I/O77 J5 (io), 102 I/O78 J6 (io), 103 I/O79 J7 (io), 107 I/O80 K7 (io), 108 I/O81 K6 (io), 109 I/O82 K5 (io), 110 I/O83 K4 (io), 111 I/O84 K3 (io), 112 I/O85 K2 (io), 113 I/O86 K1 (io), 114 I/O87 K0 (io), 117 I/O88 L7 (io), 118 I/O89 L6 (io), 119 I/O90 L5 (io), 120 I/O91 L4 (io), 121 I/O92 L3 (io), 122 I/O93 L2 (io), 123 I/O94 L1 (io), 124 I/O95 L0 (io), 136 I/O96 M0 (io), 137 I/O97 M1 (io), 138 I/O98 M2 (io), 139 I/O99 M3 (io), 140 I/O100 M4 (io), 141 I/O101 M5 (io), 142 I/O102 M6 (io), 143 I/O103 M7 (io), 146 I/O104 N0 (io), 147 I/O105 N1 (io), 148 I/O106 N2 (io), 149 I/O107 N3 (io), 150 I/O108 N4 (io), 151 I/O109 N5 (io), 152 I/O110 N6 (io), 153 I/O111 N7 (io), 158 I/O112 O7 (io), 159 I/O113 O6 (io), 160 I/O114 O5 (io), 161 I/O115 O4 (io), 162 I/O116 O3 (io), 163 I/O117 O2 (io), 164 I/O118 O1 (io), 165 I/O119 O0 (io), 168 I/O120 P7 (io), 169 I/O121 P6 (io), 170 I/O122 P5 (io), 171 I/O123 P4 (io), 172 I/O124 P3 (io), 173 I/O125 P2 (io), 174 I/O126 P1 (io), 175 I/O127 P0 (io), 190 I/O0 A0 (io), 191 I/O1 A1 (io), 192 I/O2 A2 (io), 193 I/O3 A3 (io), 194 I/O4 A4 (io), 195 I/O5 A5 (io), 196 I/O6 A6 (io), 197 I/O7 A7 (io), 200 I/O8 B0 (io), 201 I/O9 B1 (io), 202 I/O10 B2 (io), 203 I/O11 B3 (io), 204 I/O12 B4 (io), 205 I/O13 B5 (io), 206 I/O14 B6 (io), 207 I/O15 B7 (io)
part B pins: 1 GND (power), 2 TDI (in), 11 VCC (power), 12 GND (power), 21 I2 (in), 22 I3 (in), 23 GND (power), 24 VCC (power), 25 VCC (power), 26 GND (power), 27 GND (power), 28 VCC (power), 29 VCC (power), 30 GND (power), 31 I4 (in), 40 GND (power), 41 VCC (power), 50 TMS (in), 51 TCK (in), 52 GND (power), 53 GND (power), 62 GND (power), 63 VCC (power), 72 I5 (in), 73 I6 (in), 74 CLK1 (in), 75 VCC (power), 76 GND (power), 77 GND (power), 78 VCC (power), 79 VCC (power), 80 GND (power), 81 GND (power), 82 VCC (power), 83 CLK2 (in), 84 I7 (in), 85 I8 (in), 94 VCC (power), 95 GND (power), 104 GND (power), 105 GND (power), 106 ENABLE (in), 115 VCC (power), 116 GND (power), 125 I9 (in), 126 I10 (in), 127 GND (power), 128 VCC (power), 129 VCC (power), 130 GND (power), 131 GND (power), 132 VCC (power), 133 VCC (power), 134 GND (power), 135 I11 (in), 144 GND (power), 145 VCC (power), 154 TRST (in), 155 TDO (out), 156 GND (power), 157 GND (power), 166 GND (power), 167 VCC (power), 176 I12 (in), 177 I13 (in), 178 CLK3 (in), 179 VCC (power), 180 GND (power), 181 GND (power), 182 VCC (power), 183 VCC (power), 184 GND (power), 185 GND (power), 186 VCC (power), 187 CLK0 (in), 188 I0 (in), 189 I1 (in), 198 VCC (power), 199 GND (power), 208 GND (power)
part A text: BANK P; BANK O; BANK N; BANK M; BANK L; BANK A; BANK K; BANK B; BANK C; BANK J; BANK I; BANK D; BANK F; BANK E; BANK G; BANK H

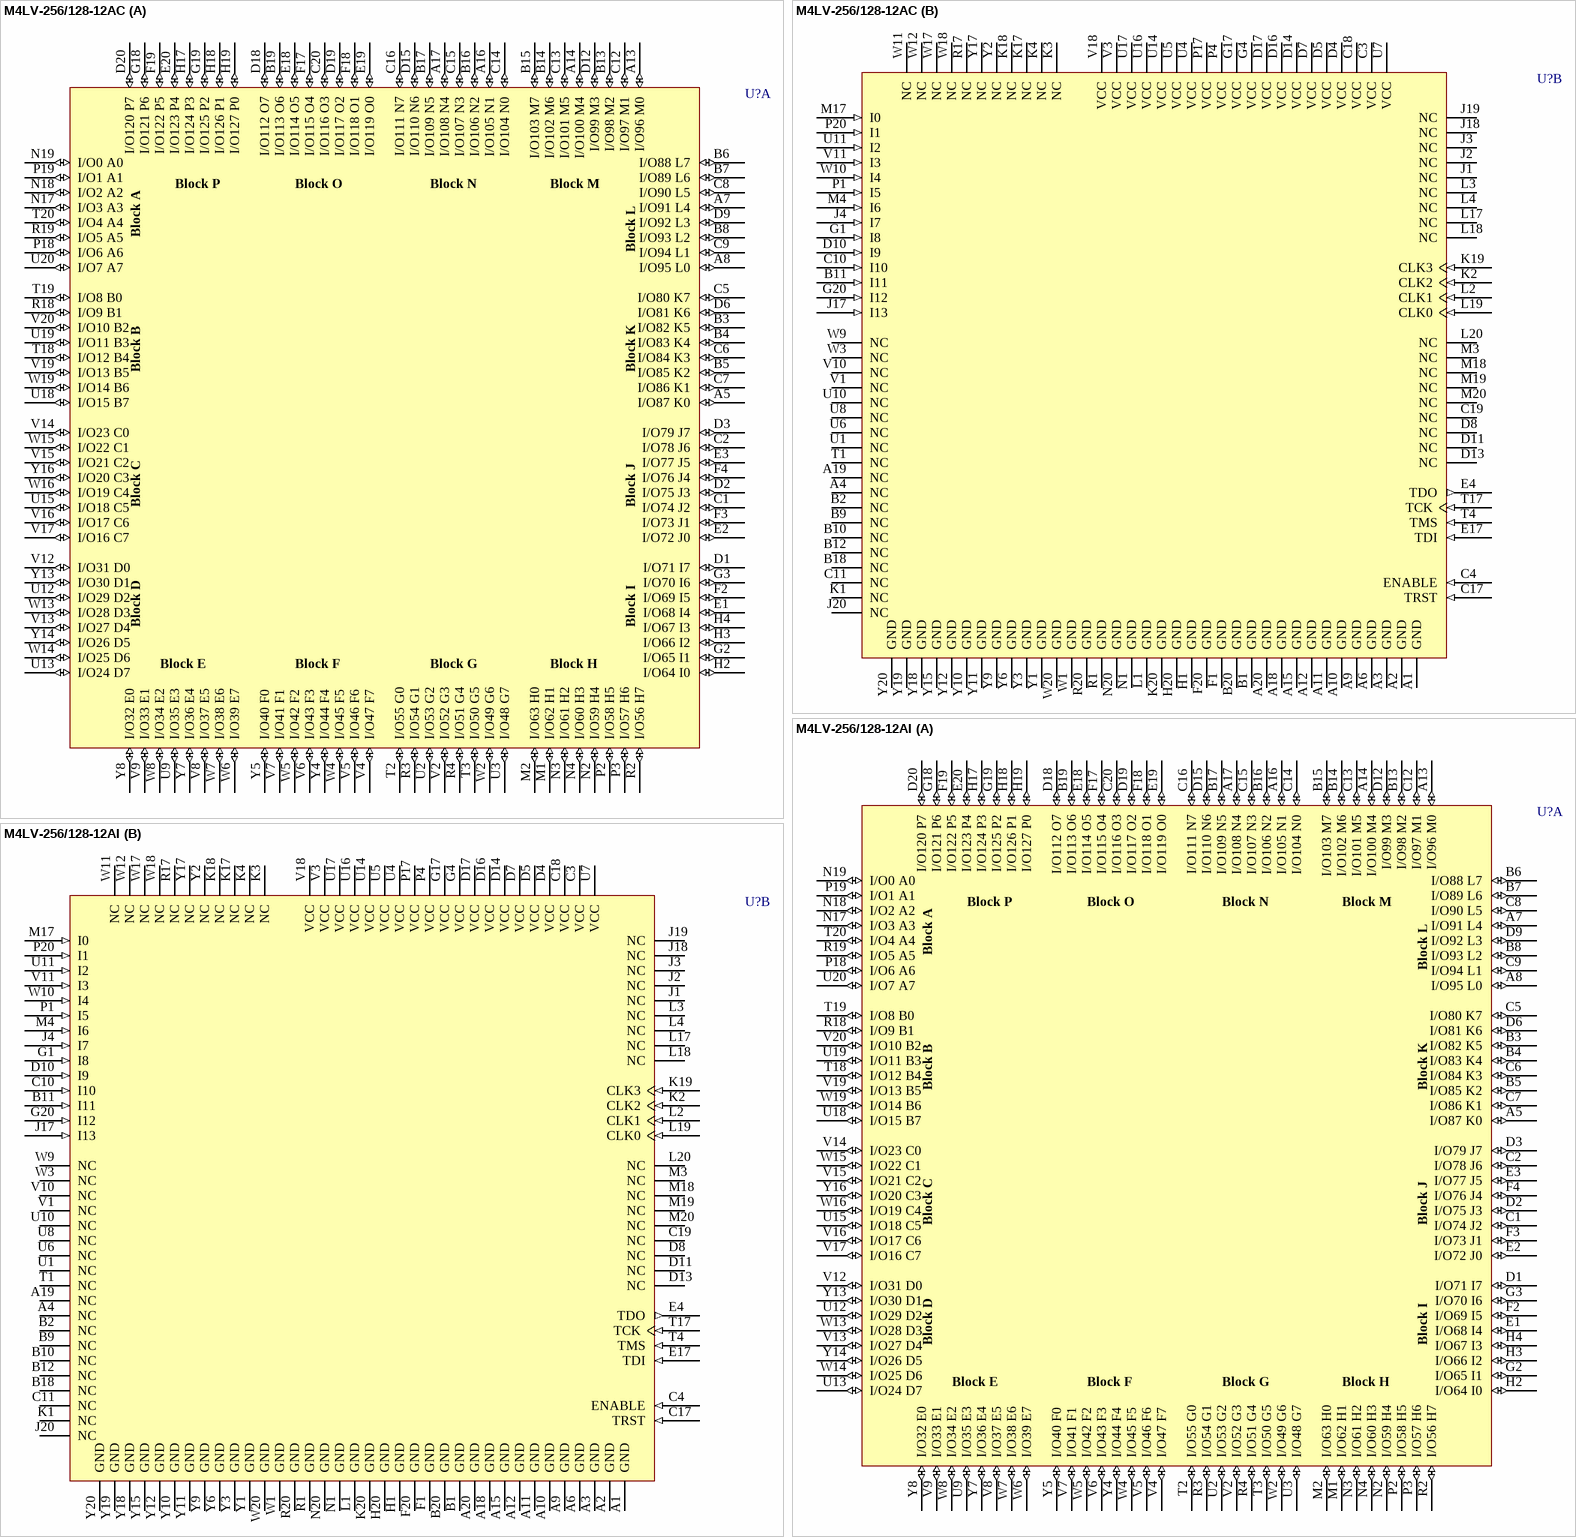
[diagram p150: symbols M4LV-256/128-12AC to M4LV-256/128-12AI]

## M4LV-256/128-12AC
designator U?
High-Performance EE CMOS In-System Programmable Logic; Published: 23-Sep-2002; LatestRevisionDate: 13-Apr-2006; LatestRevisionNote: IPC-7351 Footprint Added.; DatasheetVersion: Mar-2000; PackageVersion: pkg_32, Aug-2005; PackageReference: SBGA256; Publisher: Altium Limited; PackageDescription: 256-Ball Super Ball Grid Array (SBGA256); ComponentLink1Description: Manufacturer Link; ComponentLink1URL: http://www.latticesemi.com/products/mature/index.cfm; ComponentLink2Description: Datasheet; ComponentLink2URL: http://www.latticesemi.com/lit/docs/datasheets/cpld/mach4.pdf
footprint SBGA256 (BGA, 256-Leads, Body 27x27mm, Pitch 1.27mm)
3D model M4LV-SBGA256 (256-Ball Super Ball Grid Array (SBGA256))
part A pins: A5 I/O87 K0 (io), A7 I/O91 L4 (io), A8 I/O95 L0 (io), A13 I/O96 M0 (io), A14 I/O100 M4 (io), A16 I/O105 N1 (io), A17 I/O108 N4 (io), B3 I/O82 K5 (io), B4 I/O83 K4 (io), B5 I/O85 K2 (io), B6 I/O88 L7 (io), B7 I/O89 L6 (io), B8 I/O93 L2 (io), B13 I/O98 M2 (io), B14 I/O102 M6 (io), B15 I/O103 M7 (io), B16 I/O106 N2 (io), B17 I/O109 N5 (io), B19 I/O113 O6 (io), C1 I/O74 J2 (io), C2 I/O78 J6 (io), C5 I/O80 K7 (io), C6 I/O84 K3 (io), C7 I/O86 K1 (io), C8 I/O90 L5 (io), C9 I/O94 L1 (io), C12 I/O97 M1 (io), C13 I/O101 M5 (io), C14 I/O104 N0 (io), C15 I/O107 N3 (io), C16 I/O111 N7 (io), C20 I/O116 O3 (io), D1 I/O71 I7 (io), D2 I/O75 J3 (io), D3 I/O79 J7 (io), D6 I/O81 K6 (io), D9 I/O92 L3 (io), D12 I/O99 M3 (io), D15 I/O110 N6 (io), D18 I/O112 O7 (io), D19 I/O117 O2 (io), D20 I/O120 P7 (io), E1 I/O68 I4 (io), E2 I/O72 J0 (io), E3 I/O77 J5 (io), E18 I/O114 O5 (io), E19 I/O119 O0 (io), E20 I/O123 P4 (io), F2 I/O69 I5 (io), F3 I/O73 J1 (io), F4 I/O76 J4 (io), F17 I/O115 O4 (io), F18 I/O118 O1 (io), F19 I/O122 P5 (io), G2 I/O65 I1 (io), G3 I/O70 I6 (io), G18 I/O121 P6 (io), G19 I/O125 P2 (io), H2 I/O64 I0 (io), H3 I/O66 I2 (io), H4 I/O67 I3 (io), H17 I/O124 P3 (io), H18 I/O126 P1 (io), H19 I/O127 P0 (io), M1 I/O62 H1 (io), M2 I/O63 H0 (io), N2 I/O59 H4 (io), N3 I/O61 H2 (io), N4 I/O60 H3 (io), N17 I/O3 A3 (io), N18 I/O2 A2 (io), N19 I/O0 A0 (io), P2 I/O58 H5 (io), P3 I/O57 H6 (io), P18 I/O6 A6 (io), P19 I/O1 A1 (io), R2 I/O56 H7 (io), R3 I/O54 G1 (io), R4 I/O51 G4 (io), R18 I/O9 B1 (io), R19 I/O5 A5 (io), T2 I/O55 G0 (io), T3 I/O50 G5 (io), T18 I/O12 B4 (io), T19 I/O8 B0 (io), T20 I/O4 A4 (io), U2 I/O53 G2 (io), U3 I/O48 G7 (io), U9 I/O35 E3 (io), U12 I/O29 D2 (io), U13 I/O24 D7 (io), U15 I/O18 C5 (io), U18 I/O15 B7 (io), U19 I/O11 B3 (io), U20 I/O7 A7 (io), V2 I/O52 G3 (io), V4 I/O47 F7 (io), V5 I/O46 F6 (io), V6 I/O43 F3 (io), V7 I/O41 F1 (io), V8 I/O37 E5 (io), V9 I/O33 E1 (io), V12 I/O31 D0 (io), V13 I/O27 D4 (io), V14 I/O23 C0 (io), V15 I/O21 C2 (io), V16 I/O17 C6 (io), V17 I/O16 C7 (io), V19 I/O13 B5 (io), V20 I/O10 B2 (io), W2 I/O49 G6 (io), W4 I/O45 F5 (io), W5 I/O42 F2 (io), W6 I/O39 E7 (io), W7 I/O38 E6 (io), W8 I/O34 E2 (io), W13 I/O28 D3 (io), W14 I/O25 D6 (io), W15 I/O22 C1 (io), W16 I/O19 C4 (io), W19 I/O14 B6 (io), Y4 I/O44 F4 (io), Y5 I/O40 F0 (io), Y7 I/O36 E4 (io), Y8 I/O32 E0 (io), Y13 I/O30 D1 (io), Y14 I/O26 D5 (io), Y16 I/O20 C3 (io)
part B pins: A1 GND (power), A2 GND (power), A3 GND (power), A4 NC, A6 GND (power), A9 GND (power), A10 GND (power), A11 GND (power), A12 GND (power), A15 GND (power), A18 GND (power), A19 NC, A20 GND (power), B1 GND (power), B2 NC, B9 NC, B10 NC, B11 I11 (in), B12 NC, B18 NC, B20 GND (power), C3 VCC (power), C4 ENABLE (in), C10 I10 (in), C11 NC, C17 TRST (in), C18 VCC (power), C19 NC, D4 VCC (power), D5 VCC (power), D7 VCC (power), D8 NC, D10 I9 (in), D11 NC, D13 NC, D14 VCC (power), D16 VCC (power), D17 VCC (power), E4 TDO (out), E17 TDI (in), F1 GND (power), F20 GND (power), G1 I8 (in), G4 VCC (power), G17 VCC (power), G20 I12 (in), H1 GND (power), H20 GND (power), J1 NC, J2 NC, J3 NC, J4 I7 (in), J17 I13 (in), J18 NC, J19 NC, J20 NC, K1 NC, K2 CLK2 (in), K3 NC, K4 NC, K17 NC, K18 NC, K19 CLK3 (in), K20 GND (power), L1 GND (power), L2 CLK1 (in), L3 NC, L4 NC, L17 NC, L18 NC, L19 CLK0 (in), L20 NC, M3 NC, M4 I6 (in), M17 I0 (in), M18 NC, M19 NC, M20 NC, N1 GND (power), N20 GND (power), P1 I5 (in), P4 VCC (power), P17 VCC (power), P20 I1 (in), R1 GND (power), R17 NC, R20 GND (power), T1 NC, T4 TMS (in), T17 TCK (in), U1 NC, U4 VCC (power), U5 VCC (power), U6 NC, U7 VCC (power), U8 NC, U10 NC, U11 I2 (in), U14 VCC (power), U16 VCC (power), U17 VCC (power), V1 NC, V3 VCC (power), V10 NC, V11 I3 (in), V18 VCC (power), W1 GND (power), W3 NC, W9 NC, W10 I4 (in), W11 NC, W12 NC, W17 NC, W18 NC, W20 GND (power), Y1 GND (power), Y2 NC, Y3 GND (power), Y6 GND (power), Y9 GND (power), Y10 GND (power), Y11 GND (power), Y12 GND (power), Y15 GND (power), Y17 NC, Y18 GND (power), Y19 GND (power), Y20 GND (power)
part A text: Block P; Block O; Block N; Block M; Block A; Block L; Block B; Block K; Block C; Block J; Block D; Block I; Block E; Block F; Block G; Block H

## M4LV-256/128-12AI
designator U?
High-Performance EE CMOS In-System Programmable Logic; Published: 23-Sep-2002; LatestRevisionDate: 13-Apr-2006; LatestRevisionNote: IPC-7351 Footprint Added.; DatasheetVersion: Mar-2000; PackageVersion: pkg_32, Aug-2005; PackageReference: SBGA256; Publisher: Altium Limited; PackageDescription: 256-Ball Super Ball Grid Array (SBGA256); ComponentLink1Description: Manufacturer Link; ComponentLink1URL: http://www.latticesemi.com/products/mature/index.cfm; ComponentLink2Description: Datasheet; ComponentLink2URL: http://www.latticesemi.com/lit/docs/datasheets/cpld/mach4.pdf
footprint SBGA256 (BGA, 256-Leads, Body 27x27mm, Pitch 1.27mm)
3D model M4LV-SBGA256 (256-Ball Super Ball Grid Array (SBGA256))
part A pins: A5 I/O87 K0 (io), A7 I/O91 L4 (io), A8 I/O95 L0 (io), A13 I/O96 M0 (io), A14 I/O100 M4 (io), A16 I/O105 N1 (io), A17 I/O108 N4 (io), B3 I/O82 K5 (io), B4 I/O83 K4 (io), B5 I/O85 K2 (io), B6 I/O88 L7 (io), B7 I/O89 L6 (io), B8 I/O93 L2 (io), B13 I/O98 M2 (io), B14 I/O102 M6 (io), B15 I/O103 M7 (io), B16 I/O106 N2 (io), B17 I/O109 N5 (io), B19 I/O113 O6 (io), C1 I/O74 J2 (io), C2 I/O78 J6 (io), C5 I/O80 K7 (io), C6 I/O84 K3 (io), C7 I/O86 K1 (io), C8 I/O90 L5 (io), C9 I/O94 L1 (io), C12 I/O97 M1 (io), C13 I/O101 M5 (io), C14 I/O104 N0 (io), C15 I/O107 N3 (io), C16 I/O111 N7 (io), C20 I/O116 O3 (io), D1 I/O71 I7 (io), D2 I/O75 J3 (io), D3 I/O79 J7 (io), D6 I/O81 K6 (io), D9 I/O92 L3 (io), D12 I/O99 M3 (io), D15 I/O110 N6 (io), D18 I/O112 O7 (io), D19 I/O117 O2 (io), D20 I/O120 P7 (io), E1 I/O68 I4 (io), E2 I/O72 J0 (io), E3 I/O77 J5 (io), E18 I/O114 O5 (io), E19 I/O119 O0 (io), E20 I/O123 P4 (io), F2 I/O69 I5 (io), F3 I/O73 J1 (io), F4 I/O76 J4 (io), F17 I/O115 O4 (io), F18 I/O118 O1 (io), F19 I/O122 P5 (io), G2 I/O65 I1 (io), G3 I/O70 I6 (io), G18 I/O121 P6 (io), G19 I/O125 P2 (io), H2 I/O64 I0 (io), H3 I/O66 I2 (io), H4 I/O67 I3 (io), H17 I/O124 P3 (io), H18 I/O126 P1 (io), H19 I/O127 P0 (io), M1 I/O62 H1 (io), M2 I/O63 H0 (io), N2 I/O59 H4 (io), N3 I/O61 H2 (io), N4 I/O60 H3 (io), N17 I/O3 A3 (io), N18 I/O2 A2 (io), N19 I/O0 A0 (io), P2 I/O58 H5 (io), P3 I/O57 H6 (io), P18 I/O6 A6 (io), P19 I/O1 A1 (io), R2 I/O56 H7 (io), R3 I/O54 G1 (io), R4 I/O51 G4 (io), R18 I/O9 B1 (io), R19 I/O5 A5 (io), T2 I/O55 G0 (io), T3 I/O50 G5 (io), T18 I/O12 B4 (io), T19 I/O8 B0 (io), T20 I/O4 A4 (io), U2 I/O53 G2 (io), U3 I/O48 G7 (io), U9 I/O35 E3 (io), U12 I/O29 D2 (io), U13 I/O24 D7 (io), U15 I/O18 C5 (io), U18 I/O15 B7 (io), U19 I/O11 B3 (io), U20 I/O7 A7 (io), V2 I/O52 G3 (io), V4 I/O47 F7 (io), V5 I/O46 F6 (io), V6 I/O43 F3 (io), V7 I/O41 F1 (io), V8 I/O37 E5 (io), V9 I/O33 E1 (io), V12 I/O31 D0 (io), V13 I/O27 D4 (io), V14 I/O23 C0 (io), V15 I/O21 C2 (io), V16 I/O17 C6 (io), V17 I/O16 C7 (io), V19 I/O13 B5 (io), V20 I/O10 B2 (io), W2 I/O49 G6 (io), W4 I/O45 F5 (io), W5 I/O42 F2 (io), W6 I/O39 E7 (io), W7 I/O38 E6 (io), W8 I/O34 E2 (io), W13 I/O28 D3 (io), W14 I/O25 D6 (io), W15 I/O22 C1 (io), W16 I/O19 C4 (io), W19 I/O14 B6 (io), Y4 I/O44 F4 (io), Y5 I/O40 F0 (io), Y7 I/O36 E4 (io), Y8 I/O32 E0 (io), Y13 I/O30 D1 (io), Y14 I/O26 D5 (io), Y16 I/O20 C3 (io)
part B pins: A1 GND (power), A2 GND (power), A3 GND (power), A4 NC, A6 GND (power), A9 GND (power), A10 GND (power), A11 GND (power), A12 GND (power), A15 GND (power), A18 GND (power), A19 NC, A20 GND (power), B1 GND (power), B2 NC, B9 NC, B10 NC, B11 I11 (in), B12 NC, B18 NC, B20 GND (power), C3 VCC (power), C4 ENABLE (in), C10 I10 (in), C11 NC, C17 TRST (in), C18 VCC (power), C19 NC, D4 VCC (power), D5 VCC (power), D7 VCC (power), D8 NC, D10 I9 (in), D11 NC, D13 NC, D14 VCC (power), D16 VCC (power), D17 VCC (power), E4 TDO (out), E17 TDI (in), F1 GND (power), F20 GND (power), G1 I8 (in), G4 VCC (power), G17 VCC (power), G20 I12 (in), H1 GND (power), H20 GND (power), J1 NC, J2 NC, J3 NC, J4 I7 (in), J17 I13 (in), J18 NC, J19 NC, J20 NC, K1 NC, K2 CLK2 (in), K3 NC, K4 NC, K17 NC, K18 NC, K19 CLK3 (in), K20 GND (power), L1 GND (power), L2 CLK1 (in), L3 NC, L4 NC, L17 NC, L18 NC, L19 CLK0 (in), L20 NC, M3 NC, M4 I6 (in), M17 I0 (in), M18 NC, M19 NC, M20 NC, N1 GND (power), N20 GND (power), P1 I5 (in), P4 VCC (power), P17 VCC (power), P20 I1 (in), R1 GND (power), R17 NC, R20 GND (power), T1 NC, T4 TMS (in), T17 TCK (in), U1 NC, U4 VCC (power), U5 VCC (power), U6 NC, U7 VCC (power), U8 NC, U10 NC, U11 I2 (in), U14 VCC (power), U16 VCC (power), U17 VCC (power), V1 NC, V3 VCC (power), V10 NC, V11 I3 (in), V18 VCC (power), W1 GND (power), W3 NC, W9 NC, W10 I4 (in), W11 NC, W12 NC, W17 NC, W18 NC, W20 GND (power), Y1 GND (power), Y2 NC, Y3 GND (power), Y6 GND (power), Y9 GND (power), Y10 GND (power), Y11 GND (power), Y12 GND (power), Y15 GND (power), Y17 NC, Y18 GND (power), Y19 GND (power), Y20 GND (power)
part A text: Block P; Block O; Block N; Block M; Block A; Block L; Block B; Block K; Block C; Block J; Block D; Block I; Block E; Block F; Block G; Block H

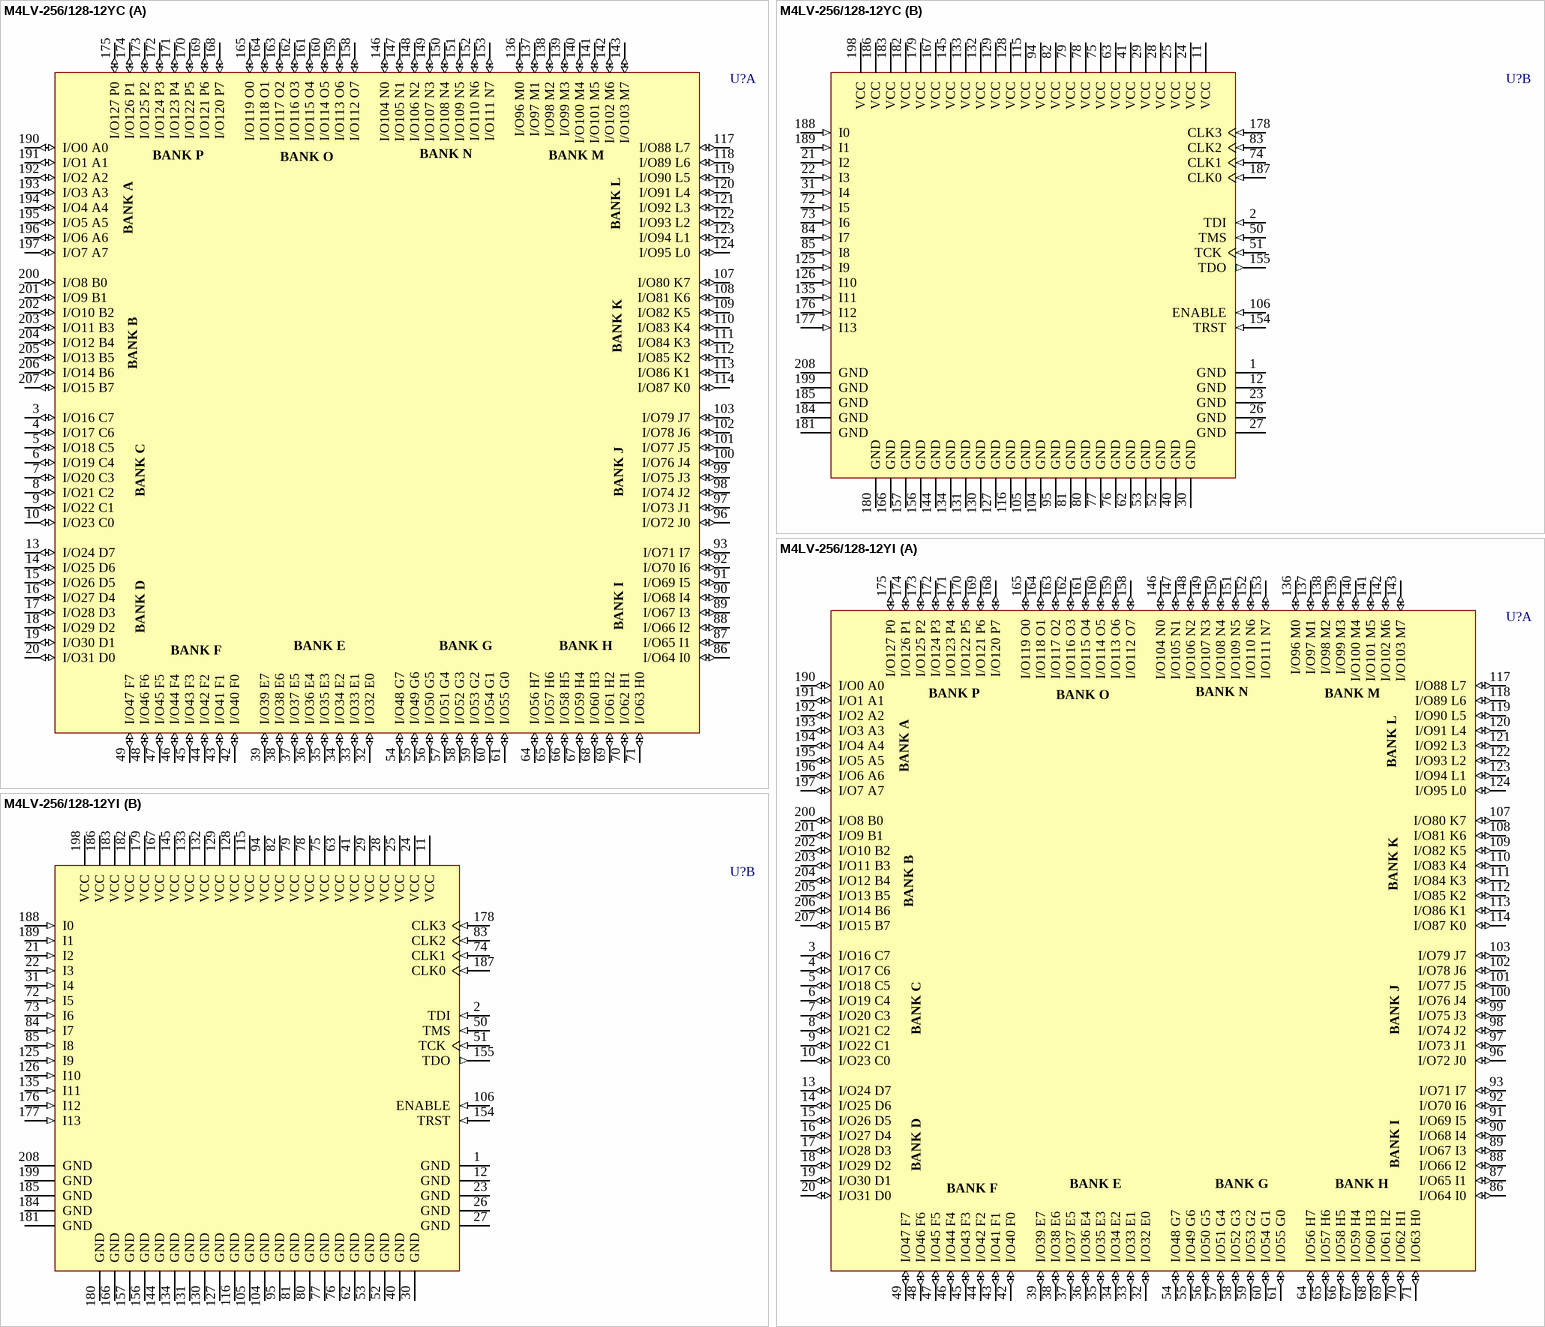
[diagram p151: symbols M4LV-256/128-12YC to M4LV-256/128-12YI]

## M4LV-256/128-12YC
designator U?
High-Performance EE CMOS In-System Programmable Logic; Published: 23-Sep-2002; LatestRevisionDate: 13-Apr-2006; LatestRevisionNote: IPC-7351 Footprint Added.; DatasheetVersion: Mar-2000; PackageVersion: pkg_32, Aug-2005; PackageReference: PQFP208; Publisher: Altium Limited; PackageDescription: 208-Pin Plastic Quad Flat Pack (PQFP208); Code_JEDEC: MO-143-FAI; ComponentLink1Description: Manufacturer Link; ComponentLink1URL: http://www.latticesemi.com/products/mature/index.cfm; ComponentLink2Description: Datasheet; ComponentLink2URL: http://www.latticesemi.com/lit/docs/datasheets/cpld/mach4.pdf
footprint PQFP208_N (Shrink QFP, 208-Leads, Body 28x28mm, Pitch 0.5mm, IPC Medium Density)
footprint PQFP208_L (Shrink QFP, 208-Leads, Body 28x28mm, Pitch 0.5mm, IPC High Density)
footprint PQFP208_M (Shrink QFP, 208-Leads, Body 28x28mm, Pitch 0.5mm, IPC Low Density)
3D model M4LV-PQFP208 (208-Pin Plastic Quad Flat Pack (PQFP208))
part A pins: 3 I/O16 C7 (io), 4 I/O17 C6 (io), 5 I/O18 C5 (io), 6 I/O19 C4 (io), 7 I/O20 C3 (io), 8 I/O21 C2 (io), 9 I/O22 C1 (io), 10 I/O23 C0 (io), 13 I/O24 D7 (io), 14 I/O25 D6 (io), 15 I/O26 D5 (io), 16 I/O27 D4 (io), 17 I/O28 D3 (io), 18 I/O29 D2 (io), 19 I/O30 D1 (io), 20 I/O31 D0 (io), 32 I/O32 E0 (io), 33 I/O33 E1 (io), 34 I/O34 E2 (io), 35 I/O35 E3 (io), 36 I/O36 E4 (io), 37 I/O37 E5 (io), 38 I/O38 E6 (io), 39 I/O39 E7 (io), 42 I/O40 F0 (io), 43 I/O41 F1 (io), 44 I/O42 F2 (io), 45 I/O43 F3 (io), 46 I/O44 F4 (io), 47 I/O45 F5 (io), 48 I/O46 F6 (io), 49 I/O47 F7 (io), 54 I/O48 G7 (io), 55 I/O49 G6 (io), 56 I/O50 G5 (io), 57 I/O51 G4 (io), 58 I/O52 G3 (io), 59 I/O53 G2 (io), 60 I/O54 G1 (io), 61 I/O55 G0 (io), 64 I/O56 H7 (io), 65 I/O57 H6 (io), 66 I/O58 H5 (io), 67 I/O59 H4 (io), 68 I/O60 H3 (io), 69 I/O61 H2 (io), 70 I/O62 H1 (io), 71 I/O63 H0 (io), 86 I/O64 I0 (io), 87 I/O65 I1 (io), 88 I/O66 I2 (io), 89 I/O67 I3 (io), 90 I/O68 I4 (io), 91 I/O69 I5 (io), 92 I/O70 I6 (io), 93 I/O71 I7 (io), 96 I/O72 J0 (io), 97 I/O73 J1 (io), 98 I/O74 J2 (io), 99 I/O75 J3 (io), 100 I/O76 J4 (io), 101 I/O77 J5 (io), 102 I/O78 J6 (io), 103 I/O79 J7 (io), 107 I/O80 K7 (io), 108 I/O81 K6 (io), 109 I/O82 K5 (io), 110 I/O83 K4 (io), 111 I/O84 K3 (io), 112 I/O85 K2 (io), 113 I/O86 K1 (io), 114 I/O87 K0 (io), 117 I/O88 L7 (io), 118 I/O89 L6 (io), 119 I/O90 L5 (io), 120 I/O91 L4 (io), 121 I/O92 L3 (io), 122 I/O93 L2 (io), 123 I/O94 L1 (io), 124 I/O95 L0 (io), 136 I/O96 M0 (io), 137 I/O97 M1 (io), 138 I/O98 M2 (io), 139 I/O99 M3 (io), 140 I/O100 M4 (io), 141 I/O101 M5 (io), 142 I/O102 M6 (io), 143 I/O103 M7 (io), 146 I/O104 N0 (io), 147 I/O105 N1 (io), 148 I/O106 N2 (io), 149 I/O107 N3 (io), 150 I/O108 N4 (io), 151 I/O109 N5 (io), 152 I/O110 N6 (io), 153 I/O111 N7 (io), 158 I/O112 O7 (io), 159 I/O113 O6 (io), 160 I/O114 O5 (io), 161 I/O115 O4 (io), 162 I/O116 O3 (io), 163 I/O117 O2 (io), 164 I/O118 O1 (io), 165 I/O119 O0 (io), 168 I/O120 P7 (io), 169 I/O121 P6 (io), 170 I/O122 P5 (io), 171 I/O123 P4 (io), 172 I/O124 P3 (io), 173 I/O125 P2 (io), 174 I/O126 P1 (io), 175 I/O127 P0 (io), 190 I/O0 A0 (io), 191 I/O1 A1 (io), 192 I/O2 A2 (io), 193 I/O3 A3 (io), 194 I/O4 A4 (io), 195 I/O5 A5 (io), 196 I/O6 A6 (io), 197 I/O7 A7 (io), 200 I/O8 B0 (io), 201 I/O9 B1 (io), 202 I/O10 B2 (io), 203 I/O11 B3 (io), 204 I/O12 B4 (io), 205 I/O13 B5 (io), 206 I/O14 B6 (io), 207 I/O15 B7 (io)
part B pins: 1 GND (power), 2 TDI (in), 11 VCC (power), 12 GND (power), 21 I2 (in), 22 I3 (in), 23 GND (power), 24 VCC (power), 25 VCC (power), 26 GND (power), 27 GND (power), 28 VCC (power), 29 VCC (power), 30 GND (power), 31 I4 (in), 40 GND (power), 41 VCC (power), 50 TMS (in), 51 TCK (in), 52 GND (power), 53 GND (power), 62 GND (power), 63 VCC (power), 72 I5 (in), 73 I6 (in), 74 CLK1 (in), 75 VCC (power), 76 GND (power), 77 GND (power), 78 VCC (power), 79 VCC (power), 80 GND (power), 81 GND (power), 82 VCC (power), 83 CLK2 (in), 84 I7 (in), 85 I8 (in), 94 VCC (power), 95 GND (power), 104 GND (power), 105 GND (power), 106 ENABLE (in), 115 VCC (power), 116 GND (power), 125 I9 (in), 126 I10 (in), 127 GND (power), 128 VCC (power), 129 VCC (power), 130 GND (power), 131 GND (power), 132 VCC (power), 133 VCC (power), 134 GND (power), 135 I11 (in), 144 GND (power), 145 VCC (power), 154 TRST (in), 155 TDO (out), 156 GND (power), 157 GND (power), 166 GND (power), 167 VCC (power), 176 I12 (in), 177 I13 (in), 178 CLK3 (in), 179 VCC (power), 180 GND (power), 181 GND (power), 182 VCC (power), 183 VCC (power), 184 GND (power), 185 GND (power), 186 VCC (power), 187 CLK0 (in), 188 I0 (in), 189 I1 (in), 198 VCC (power), 199 GND (power), 208 GND (power)
part A text: BANK P; BANK O; BANK N; BANK M; BANK L; BANK A; BANK K; BANK B; BANK C; BANK J; BANK I; BANK D; BANK F; BANK E; BANK G; BANK H

## M4LV-256/128-12YI
designator U?
High-Performance EE CMOS In-System Programmable Logic; Published: 23-Sep-2002; LatestRevisionDate: 13-Apr-2006; LatestRevisionNote: IPC-7351 Footprint Added.; DatasheetVersion: Mar-2000; PackageVersion: pkg_32, Aug-2005; PackageReference: PQFP208; Publisher: Altium Limited; PackageDescription: 208-Pin Plastic Quad Flat Pack (PQFP208); Code_JEDEC: MO-143-FAI; ComponentLink1Description: Manufacturer Link; ComponentLink1URL: http://www.latticesemi.com/products/mature/index.cfm; ComponentLink2Description: Datasheet; ComponentLink2URL: http://www.latticesemi.com/lit/docs/datasheets/cpld/mach4.pdf
footprint PQFP208_N (Shrink QFP, 208-Leads, Body 28x28mm, Pitch 0.5mm, IPC Medium Density)
footprint PQFP208_L (Shrink QFP, 208-Leads, Body 28x28mm, Pitch 0.5mm, IPC High Density)
footprint PQFP208_M (Shrink QFP, 208-Leads, Body 28x28mm, Pitch 0.5mm, IPC Low Density)
3D model M4LV-PQFP208 (208-Pin Plastic Quad Flat Pack (PQFP208))
part A pins: 3 I/O16 C7 (io), 4 I/O17 C6 (io), 5 I/O18 C5 (io), 6 I/O19 C4 (io), 7 I/O20 C3 (io), 8 I/O21 C2 (io), 9 I/O22 C1 (io), 10 I/O23 C0 (io), 13 I/O24 D7 (io), 14 I/O25 D6 (io), 15 I/O26 D5 (io), 16 I/O27 D4 (io), 17 I/O28 D3 (io), 18 I/O29 D2 (io), 19 I/O30 D1 (io), 20 I/O31 D0 (io), 32 I/O32 E0 (io), 33 I/O33 E1 (io), 34 I/O34 E2 (io), 35 I/O35 E3 (io), 36 I/O36 E4 (io), 37 I/O37 E5 (io), 38 I/O38 E6 (io), 39 I/O39 E7 (io), 42 I/O40 F0 (io), 43 I/O41 F1 (io), 44 I/O42 F2 (io), 45 I/O43 F3 (io), 46 I/O44 F4 (io), 47 I/O45 F5 (io), 48 I/O46 F6 (io), 49 I/O47 F7 (io), 54 I/O48 G7 (io), 55 I/O49 G6 (io), 56 I/O50 G5 (io), 57 I/O51 G4 (io), 58 I/O52 G3 (io), 59 I/O53 G2 (io), 60 I/O54 G1 (io), 61 I/O55 G0 (io), 64 I/O56 H7 (io), 65 I/O57 H6 (io), 66 I/O58 H5 (io), 67 I/O59 H4 (io), 68 I/O60 H3 (io), 69 I/O61 H2 (io), 70 I/O62 H1 (io), 71 I/O63 H0 (io), 86 I/O64 I0 (io), 87 I/O65 I1 (io), 88 I/O66 I2 (io), 89 I/O67 I3 (io), 90 I/O68 I4 (io), 91 I/O69 I5 (io), 92 I/O70 I6 (io), 93 I/O71 I7 (io), 96 I/O72 J0 (io), 97 I/O73 J1 (io), 98 I/O74 J2 (io), 99 I/O75 J3 (io), 100 I/O76 J4 (io), 101 I/O77 J5 (io), 102 I/O78 J6 (io), 103 I/O79 J7 (io), 107 I/O80 K7 (io), 108 I/O81 K6 (io), 109 I/O82 K5 (io), 110 I/O83 K4 (io), 111 I/O84 K3 (io), 112 I/O85 K2 (io), 113 I/O86 K1 (io), 114 I/O87 K0 (io), 117 I/O88 L7 (io), 118 I/O89 L6 (io), 119 I/O90 L5 (io), 120 I/O91 L4 (io), 121 I/O92 L3 (io), 122 I/O93 L2 (io), 123 I/O94 L1 (io), 124 I/O95 L0 (io), 136 I/O96 M0 (io), 137 I/O97 M1 (io), 138 I/O98 M2 (io), 139 I/O99 M3 (io), 140 I/O100 M4 (io), 141 I/O101 M5 (io), 142 I/O102 M6 (io), 143 I/O103 M7 (io), 146 I/O104 N0 (io), 147 I/O105 N1 (io), 148 I/O106 N2 (io), 149 I/O107 N3 (io), 150 I/O108 N4 (io), 151 I/O109 N5 (io), 152 I/O110 N6 (io), 153 I/O111 N7 (io), 158 I/O112 O7 (io), 159 I/O113 O6 (io), 160 I/O114 O5 (io), 161 I/O115 O4 (io), 162 I/O116 O3 (io), 163 I/O117 O2 (io), 164 I/O118 O1 (io), 165 I/O119 O0 (io), 168 I/O120 P7 (io), 169 I/O121 P6 (io), 170 I/O122 P5 (io), 171 I/O123 P4 (io), 172 I/O124 P3 (io), 173 I/O125 P2 (io), 174 I/O126 P1 (io), 175 I/O127 P0 (io), 190 I/O0 A0 (io), 191 I/O1 A1 (io), 192 I/O2 A2 (io), 193 I/O3 A3 (io), 194 I/O4 A4 (io), 195 I/O5 A5 (io), 196 I/O6 A6 (io), 197 I/O7 A7 (io), 200 I/O8 B0 (io), 201 I/O9 B1 (io), 202 I/O10 B2 (io), 203 I/O11 B3 (io), 204 I/O12 B4 (io), 205 I/O13 B5 (io), 206 I/O14 B6 (io), 207 I/O15 B7 (io)
part B pins: 1 GND (power), 2 TDI (in), 11 VCC (power), 12 GND (power), 21 I2 (in), 22 I3 (in), 23 GND (power), 24 VCC (power), 25 VCC (power), 26 GND (power), 27 GND (power), 28 VCC (power), 29 VCC (power), 30 GND (power), 31 I4 (in), 40 GND (power), 41 VCC (power), 50 TMS (in), 51 TCK (in), 52 GND (power), 53 GND (power), 62 GND (power), 63 VCC (power), 72 I5 (in), 73 I6 (in), 74 CLK1 (in), 75 VCC (power), 76 GND (power), 77 GND (power), 78 VCC (power), 79 VCC (power), 80 GND (power), 81 GND (power), 82 VCC (power), 83 CLK2 (in), 84 I7 (in), 85 I8 (in), 94 VCC (power), 95 GND (power), 104 GND (power), 105 GND (power), 106 ENABLE (in), 115 VCC (power), 116 GND (power), 125 I9 (in), 126 I10 (in), 127 GND (power), 128 VCC (power), 129 VCC (power), 130 GND (power), 131 GND (power), 132 VCC (power), 133 VCC (power), 134 GND (power), 135 I11 (in), 144 GND (power), 145 VCC (power), 154 TRST (in), 155 TDO (out), 156 GND (power), 157 GND (power), 166 GND (power), 167 VCC (power), 176 I12 (in), 177 I13 (in), 178 CLK3 (in), 179 VCC (power), 180 GND (power), 181 GND (power), 182 VCC (power), 183 VCC (power), 184 GND (power), 185 GND (power), 186 VCC (power), 187 CLK0 (in), 188 I0 (in), 189 I1 (in), 198 VCC (power), 199 GND (power), 208 GND (power)
part A text: BANK P; BANK O; BANK N; BANK M; BANK L; BANK A; BANK K; BANK B; BANK C; BANK J; BANK I; BANK D; BANK F; BANK E; BANK G; BANK H

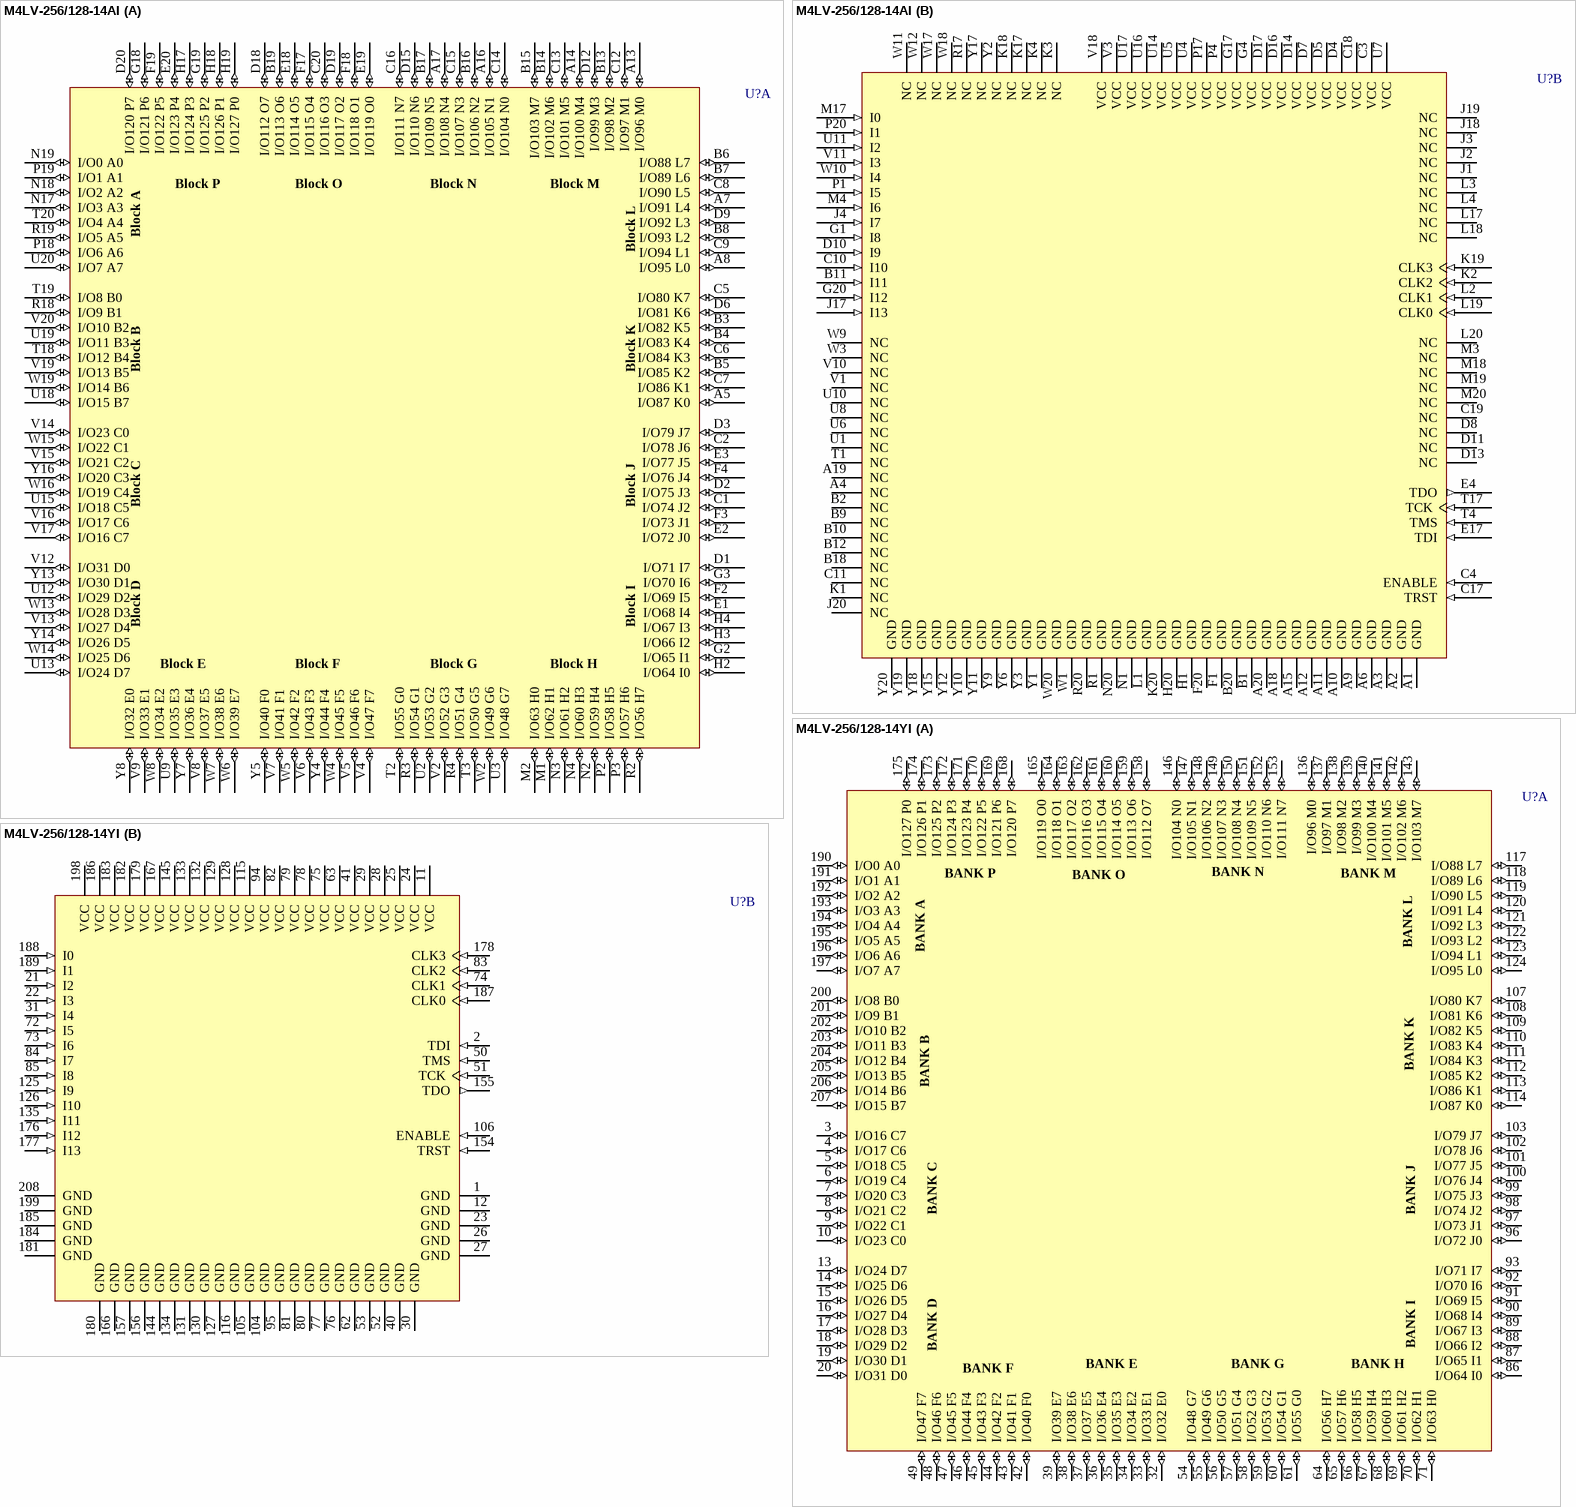
[diagram p152: symbols M4LV-256/128-14AI to M4LV-256/128-14YI]